# Altium integrated library Xilinx XC4000 E.IntLib: 265 symbols (part 16 of 22)
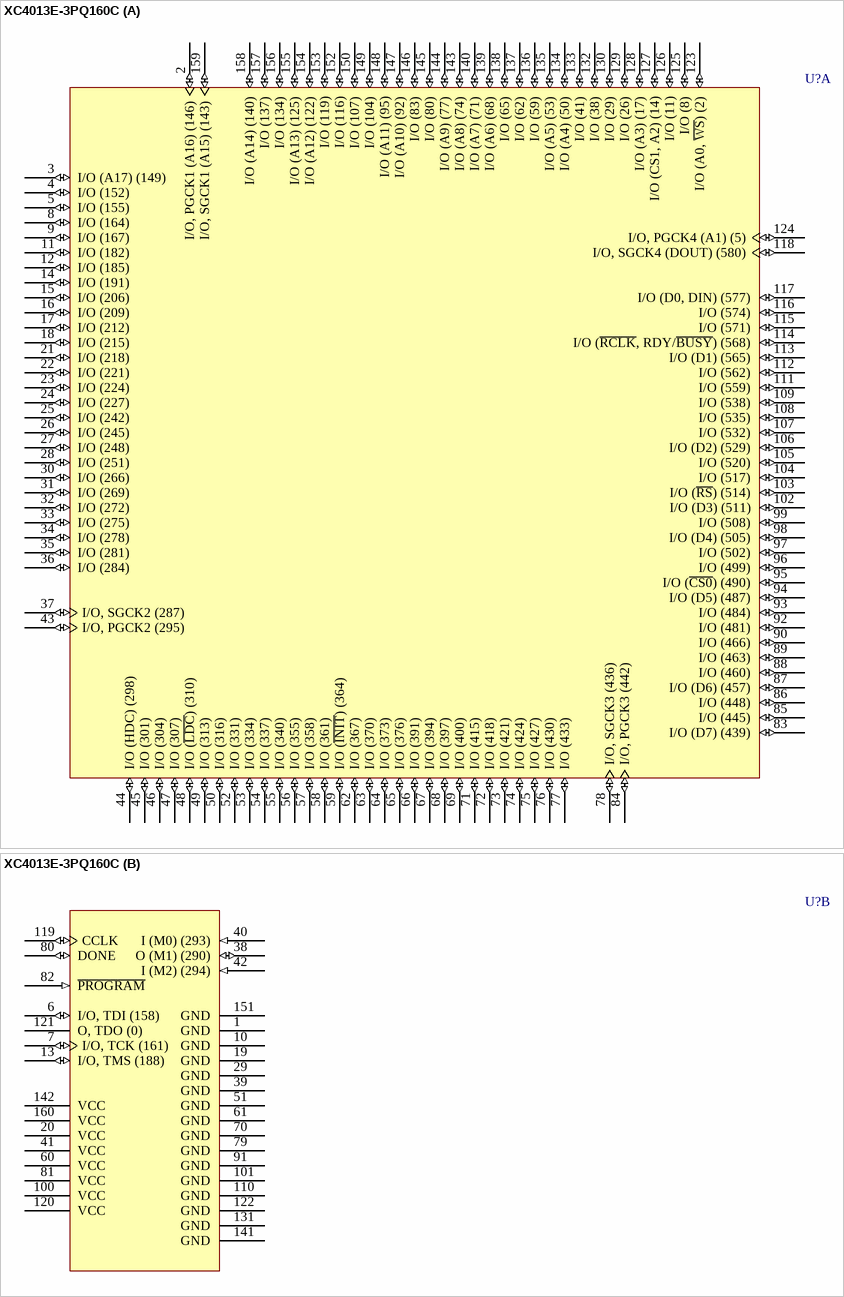
[diagram p287: symbol XC4013E-3PQ160C]

## XC4013E-3PQ160C
designator U?
XC4000E FPGA, 160-Pin PQFP, Commercial Grade; PackageDocument: ver1.1, Oct-2002; Published: 28-Feb-2003; DatasheetDocument: (v1.6) May-99; PackageReference: PQ160; Publisher: Altium Limited; Code_JEDEC: MS-022-DD1
footprint PQ160 (160-Pin Plastic Quad Flat Pack (PQ160))
part A pins: 2 I/O, PGCK1 (A16) (146) (io), 3 I/O (A17) (149) (io), 4 I/O (152) (io), 5 I/O (155) (io), 8 I/O (164) (io), 9 I/O (167) (io), 11 I/O (182) (io), 12 I/O (185) (io), 14 I/O (191) (io), 15 I/O (206) (io), 16 I/O (209) (io), 17 I/O (212) (io), 18 I/O (215) (io), 21 I/O (218) (io), 22 I/O (221) (io), 23 I/O (224) (io), 24 I/O (227) (io), 25 I/O (242) (io), 26 I/O (245) (io), 27 I/O (248) (io), 28 I/O (251) (io), 30 I/O (266) (io), 31 I/O (269) (io), 32 I/O (272) (io), 33 I/O (275) (io), 34 I/O (278) (io), 35 I/O (281) (io), 36 I/O (284) (io), 37 I/O, SGCK2 (287) (io), 43 I/O, PGCK2 (295) (io), 44 I/O (HDC) (298) (io), 45 I/O (301) (io), 46 I/O (304) (io), 47 I/O (307) (io), 48 I/O (~{LDC}) (310) (io), 49 I/O (313) (io), 50 I/O (316) (io), 52 I/O (331) (io), 53 I/O (334) (io), 54 I/O (337) (io), 55 I/O (340) (io), 56 I/O (355) (io), 57 I/O (358) (io), 58 I/O (361) (io), 59 I/O (~{INIT}) (364) (io), 62 I/O (367) (io), 63 I/O (370) (io), 64 I/O (373) (io), 65 I/O (376) (io), 66 I/O (391) (io), 67 I/O (394) (io), 68 I/O (397) (io), 69 I/O (400) (io), 71 I/O (415) (io), 72 I/O (418) (io), 73 I/O (421) (io), 74 I/O (424) (io), 75 I/O (427) (io), 76 I/O (430) (io), 77 I/O (433) (io), 78 I/O, SGCK3 (436) (io), 83 I/O (D7) (439) (io), 84 I/O, PGCK3 (442) (io), 85 I/O (445) (io), 86 I/O (448) (io), 87 I/O (D6) (457) (io), 88 I/O (460) (io), 89 I/O (463) (io), 90 I/O (466) (io), 92 I/O (481) (io), 93 I/O (484) (io), 94 I/O (D5) (487) (io), 95 I/O (~{CS0}) (490) (io), 96 I/O (499) (io), 97 I/O (502) (io), 98 I/O (D4) (505) (io), 99 I/O (508) (io), 102 I/O (D3) (511) (io), 103 I/O (~{RS}) (514) (io), 104 I/O (517) (io), 105 I/O (520) (io), 106 I/O (D2) (529) (io), 107 I/O (532) (io), 108 I/O (535) (io), 109 I/O (538) (io), 111 I/O (559) (io), 112 I/O (562) (io), 113 I/O (D1) (565) (io), 114 I/O (~{RCLK}, RDY/~{BUSY}) (568) (io), 115 I/O (571) (io), 116 I/O (574) (io), 117 I/O (D0, DIN) (577) (io), 118 I/O, SGCK4 (DOUT) (580) (io), 123 I/O (A0, ~{WS}) (2) (io), 124 I/O, PGCK4 (A1) (5) (io), 125 I/O (8) (io), 126 I/O (11) (io), 127 I/O (CS1, A2) (14) (io), 128 I/O (A3) (17) (io), 129 I/O (26) (io), 130 I/O (29) (io), 132 I/O (38) (io), 133 I/O (41) (io), 134 I/O (A4) (50) (io), 135 I/O (A5) (53) (io), 136 I/O (59) (io), 137 I/O (62) (io), 138 I/O (65) (io), 139 I/O (A6) (68) (io), 140 I/O (A7) (71) (io), 143 I/O (A8) (74) (io), 144 I/O (A9) (77) (io), 145 I/O (80) (io), 146 I/O (83) (io), 147 I/O (A10) (92) (io), 148 I/O (A11) (95) (io), 149 I/O (104) (io), 150 I/O (107) (io), 152 I/O (116) (io), 153 I/O (119) (io), 154 I/O (A12) (122) (io), 155 I/O (A13) (125) (io), 156 I/O (134) (io), 157 I/O (137) (io), 158 I/O (A14) (140) (io), 159 I/O, SGCK1 (A15) (143) (io)
part B pins: 1 GND (power), 6 I/O, TDI (158) (io), 7 I/O, TCK (161) (io), 10 GND (power), 13 I/O, TMS (188) (io), 19 GND (power), 20 VCC (power), 29 GND (power), 38 O (M1) (290) (io), 39 GND (power), 40 I (M0) (293) (in), 41 VCC (power), 42 I (M2) (294) (in), 51 GND (power), 60 VCC (power), 61 GND (power), 70 GND (power), 79 GND (power), 80 DONE (io), 81 VCC (power), 82 ~{PROGRAM} (in), 91 GND (power), 100 VCC (power), 101 GND (power), 110 GND (power), 119 CCLK (io), 120 VCC (power), 121 O, TDO (0) (hiz), 122 GND (power), 131 GND (power), 141 GND (power), 142 VCC (power), 151 GND (power), 160 VCC (power)

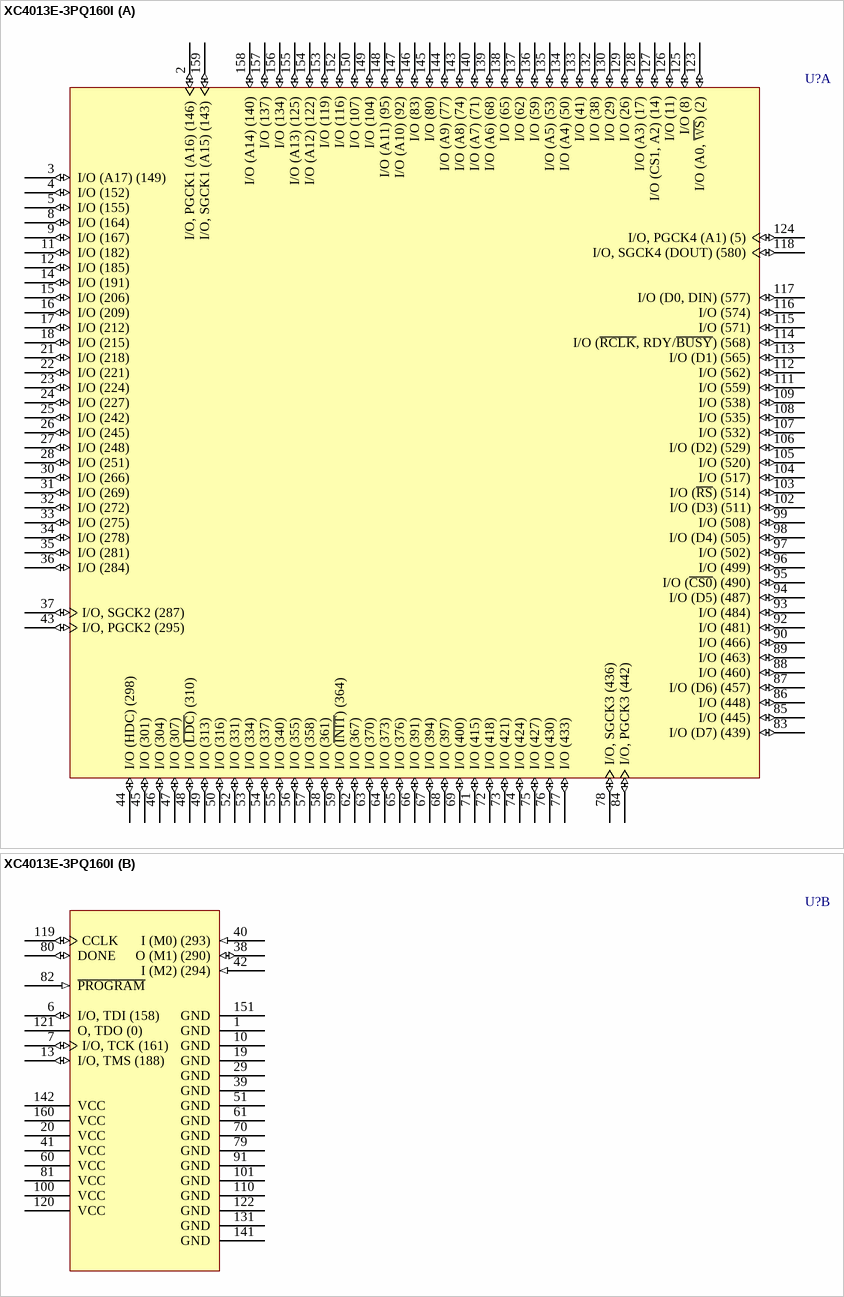
[diagram p190: symbol XC4013E-3PQ160I]

## XC4013E-3PQ160I
designator U?
XC4000E FPGA, 160-Pin PQFP, Industrial Grade; PackageDocument: ver1.1, Oct-2002; Published: 28-Feb-2003; DatasheetDocument: (v1.6) May-99; PackageReference: PQ160; Publisher: Altium Limited; Code_JEDEC: MS-022-DD1
footprint PQ160 (160-Pin Plastic Quad Flat Pack (PQ160))
part A pins: 2 I/O, PGCK1 (A16) (146) (io), 3 I/O (A17) (149) (io), 4 I/O (152) (io), 5 I/O (155) (io), 8 I/O (164) (io), 9 I/O (167) (io), 11 I/O (182) (io), 12 I/O (185) (io), 14 I/O (191) (io), 15 I/O (206) (io), 16 I/O (209) (io), 17 I/O (212) (io), 18 I/O (215) (io), 21 I/O (218) (io), 22 I/O (221) (io), 23 I/O (224) (io), 24 I/O (227) (io), 25 I/O (242) (io), 26 I/O (245) (io), 27 I/O (248) (io), 28 I/O (251) (io), 30 I/O (266) (io), 31 I/O (269) (io), 32 I/O (272) (io), 33 I/O (275) (io), 34 I/O (278) (io), 35 I/O (281) (io), 36 I/O (284) (io), 37 I/O, SGCK2 (287) (io), 43 I/O, PGCK2 (295) (io), 44 I/O (HDC) (298) (io), 45 I/O (301) (io), 46 I/O (304) (io), 47 I/O (307) (io), 48 I/O (~{LDC}) (310) (io), 49 I/O (313) (io), 50 I/O (316) (io), 52 I/O (331) (io), 53 I/O (334) (io), 54 I/O (337) (io), 55 I/O (340) (io), 56 I/O (355) (io), 57 I/O (358) (io), 58 I/O (361) (io), 59 I/O (~{INIT}) (364) (io), 62 I/O (367) (io), 63 I/O (370) (io), 64 I/O (373) (io), 65 I/O (376) (io), 66 I/O (391) (io), 67 I/O (394) (io), 68 I/O (397) (io), 69 I/O (400) (io), 71 I/O (415) (io), 72 I/O (418) (io), 73 I/O (421) (io), 74 I/O (424) (io), 75 I/O (427) (io), 76 I/O (430) (io), 77 I/O (433) (io), 78 I/O, SGCK3 (436) (io), 83 I/O (D7) (439) (io), 84 I/O, PGCK3 (442) (io), 85 I/O (445) (io), 86 I/O (448) (io), 87 I/O (D6) (457) (io), 88 I/O (460) (io), 89 I/O (463) (io), 90 I/O (466) (io), 92 I/O (481) (io), 93 I/O (484) (io), 94 I/O (D5) (487) (io), 95 I/O (~{CS0}) (490) (io), 96 I/O (499) (io), 97 I/O (502) (io), 98 I/O (D4) (505) (io), 99 I/O (508) (io), 102 I/O (D3) (511) (io), 103 I/O (~{RS}) (514) (io), 104 I/O (517) (io), 105 I/O (520) (io), 106 I/O (D2) (529) (io), 107 I/O (532) (io), 108 I/O (535) (io), 109 I/O (538) (io), 111 I/O (559) (io), 112 I/O (562) (io), 113 I/O (D1) (565) (io), 114 I/O (~{RCLK}, RDY/~{BUSY}) (568) (io), 115 I/O (571) (io), 116 I/O (574) (io), 117 I/O (D0, DIN) (577) (io), 118 I/O, SGCK4 (DOUT) (580) (io), 123 I/O (A0, ~{WS}) (2) (io), 124 I/O, PGCK4 (A1) (5) (io), 125 I/O (8) (io), 126 I/O (11) (io), 127 I/O (CS1, A2) (14) (io), 128 I/O (A3) (17) (io), 129 I/O (26) (io), 130 I/O (29) (io), 132 I/O (38) (io), 133 I/O (41) (io), 134 I/O (A4) (50) (io), 135 I/O (A5) (53) (io), 136 I/O (59) (io), 137 I/O (62) (io), 138 I/O (65) (io), 139 I/O (A6) (68) (io), 140 I/O (A7) (71) (io), 143 I/O (A8) (74) (io), 144 I/O (A9) (77) (io), 145 I/O (80) (io), 146 I/O (83) (io), 147 I/O (A10) (92) (io), 148 I/O (A11) (95) (io), 149 I/O (104) (io), 150 I/O (107) (io), 152 I/O (116) (io), 153 I/O (119) (io), 154 I/O (A12) (122) (io), 155 I/O (A13) (125) (io), 156 I/O (134) (io), 157 I/O (137) (io), 158 I/O (A14) (140) (io), 159 I/O, SGCK1 (A15) (143) (io)
part B pins: 1 GND (power), 6 I/O, TDI (158) (io), 7 I/O, TCK (161) (io), 10 GND (power), 13 I/O, TMS (188) (io), 19 GND (power), 20 VCC (power), 29 GND (power), 38 O (M1) (290) (io), 39 GND (power), 40 I (M0) (293) (in), 41 VCC (power), 42 I (M2) (294) (in), 51 GND (power), 60 VCC (power), 61 GND (power), 70 GND (power), 79 GND (power), 80 DONE (io), 81 VCC (power), 82 ~{PROGRAM} (in), 91 GND (power), 100 VCC (power), 101 GND (power), 110 GND (power), 119 CCLK (io), 120 VCC (power), 121 O, TDO (0) (hiz), 122 GND (power), 131 GND (power), 141 GND (power), 142 VCC (power), 151 GND (power), 160 VCC (power)

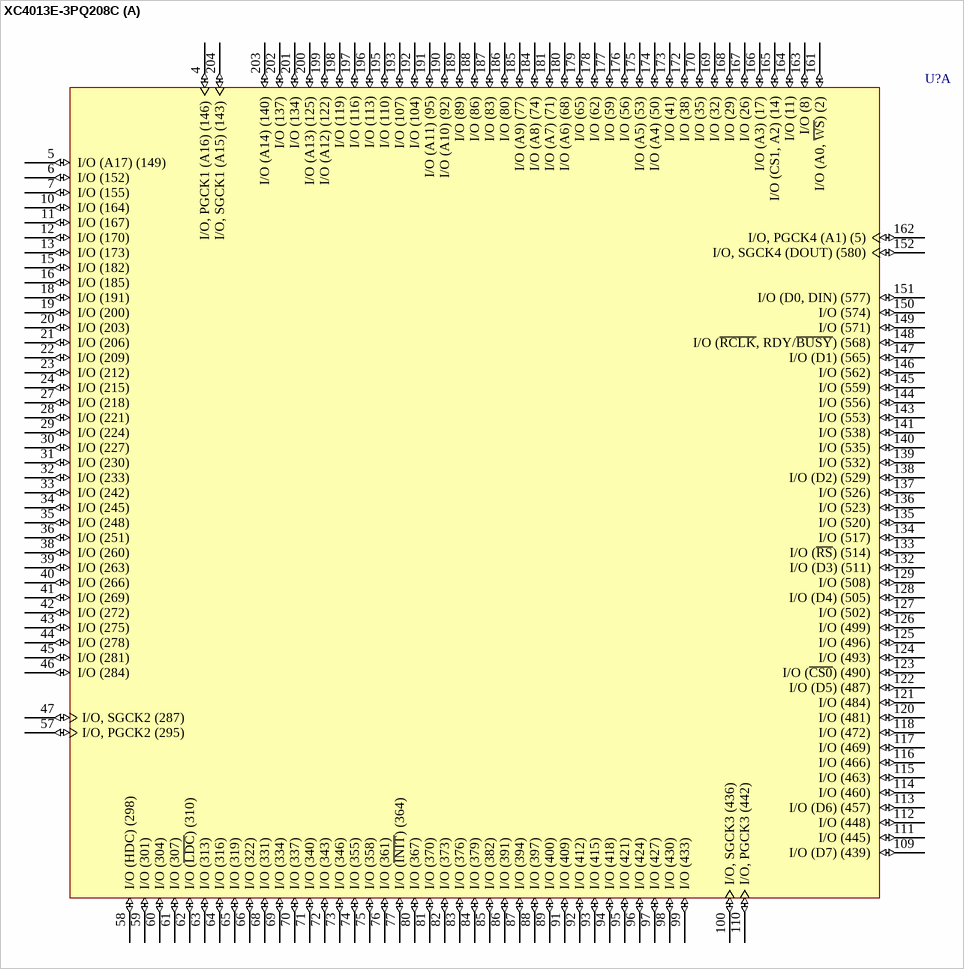
[diagram p191: symbol XC4013E-3PQ208C]

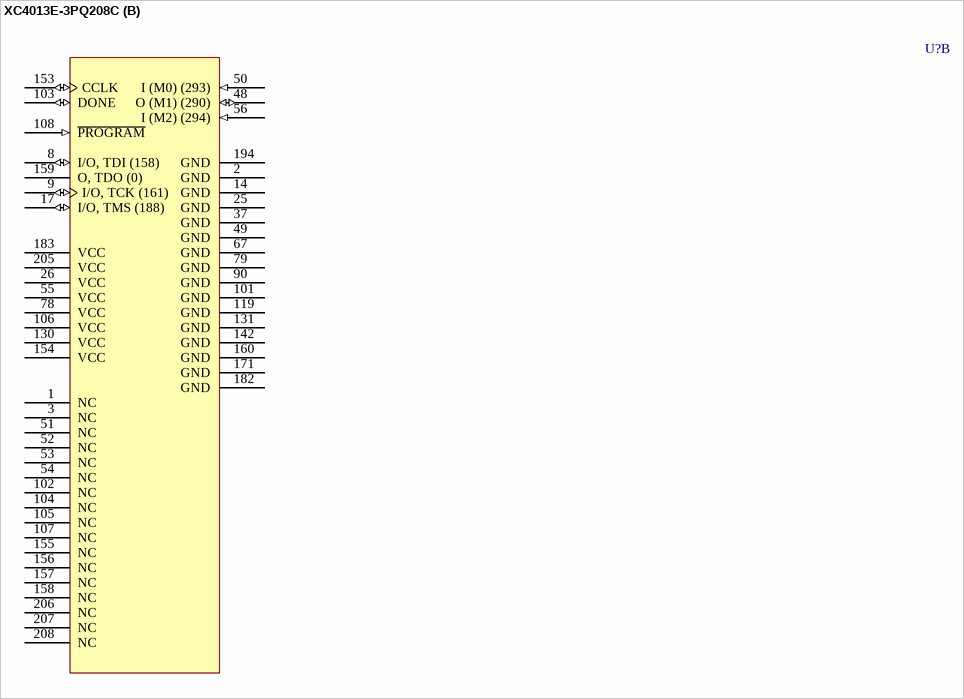
[diagram p192: symbol XC4013E-3PQ208C]

## XC4013E-3PQ208C
designator U?
XC4000E FPGA, 208-Pin PQFP, Commercial Grade; PackageDocument: ver1.1, Oct-2002; Published: 28-Feb-2003; DatasheetDocument: (v1.6) May-99; PackageReference: PQ208; Publisher: Altium Limited; Code_JEDEC: MS-029-FA-1
footprint PQ208 (208-Pin Plastic Quad Flat Pack (PQ208))
part A pins: 4 I/O, PGCK1 (A16) (146) (io), 5 I/O (A17) (149) (io), 6 I/O (152) (io), 7 I/O (155) (io), 10 I/O (164) (io), 11 I/O (167) (io), 12 I/O (170) (io), 13 I/O (173) (io), 15 I/O (182) (io), 16 I/O (185) (io), 18 I/O (191) (io), 19 I/O (200) (io), 20 I/O (203) (io), 21 I/O (206) (io), 22 I/O (209) (io), 23 I/O (212) (io), 24 I/O (215) (io), 27 I/O (218) (io), 28 I/O (221) (io), 29 I/O (224) (io), 30 I/O (227) (io), 31 I/O (230) (io), 32 I/O (233) (io), 33 I/O (242) (io), 34 I/O (245) (io), 35 I/O (248) (io), 36 I/O (251) (io), 38 I/O (260) (io), 39 I/O (263) (io), 40 I/O (266) (io), 41 I/O (269) (io), 42 I/O (272) (io), 43 I/O (275) (io), 44 I/O (278) (io), 45 I/O (281) (io), 46 I/O (284) (io), 47 I/O, SGCK2 (287) (io), 57 I/O, PGCK2 (295) (io), 58 I/O (HDC) (298) (io), 59 I/O (301) (io), 60 I/O (304) (io), 61 I/O (307) (io), 62 I/O (~{LDC}) (310) (io), 63 I/O (313) (io), 64 I/O (316) (io), 65 I/O (319) (io), 66 I/O (322) (io), 68 I/O (331) (io), 69 I/O (334) (io), 70 I/O (337) (io), 71 I/O (340) (io), 72 I/O (343) (io), 73 I/O (346) (io), 74 I/O (355) (io), 75 I/O (358) (io), 76 I/O (361) (io), 77 I/O (~{INIT}) (364) (io), 80 I/O (367) (io), 81 I/O (370) (io), 82 I/O (373) (io), 83 I/O (376) (io), 84 I/O (379) (io), 85 I/O (382) (io), 86 I/O (391) (io), 87 I/O (394) (io), 88 I/O (397) (io), 89 I/O (400) (io), 91 I/O (409) (io), 92 I/O (412) (io), 93 I/O (415) (io), 94 I/O (418) (io), 95 I/O (421) (io), 96 I/O (424) (io), 97 I/O (427) (io), 98 I/O (430) (io), 99 I/O (433) (io), 100 I/O, SGCK3 (436) (io), 109 I/O (D7) (439) (io), 110 I/O, PGCK3 (442) (io), 111 I/O (445) (io), 112 I/O (448) (io), 113 I/O (D6) (457) (io), 114 I/O (460) (io), 115 I/O (463) (io), 116 I/O (466) (io), 117 I/O (469) (io), 118 I/O (472) (io), 120 I/O (481) (io), 121 I/O (484) (io), 122 I/O (D5) (487) (io), 123 I/O (~{CS0}) (490) (io), 124 I/O (493) (io), 125 I/O (496) (io), 126 I/O (499) (io), 127 I/O (502) (io), 128 I/O (D4) (505) (io), 129 I/O (508) (io), 132 I/O (D3) (511) (io), 133 I/O (~{RS}) (514) (io), 134 I/O (517) (io), 135 I/O (520) (io), 136 I/O (523) (io), 137 I/O (526) (io), 138 I/O (D2) (529) (io), 139 I/O (532) (io), 140 I/O (535) (io), 141 I/O (538) (io), 143 I/O (553) (io), 144 I/O (556) (io), 145 I/O (559) (io), 146 I/O (562) (io), 147 I/O (D1) (565) (io), 148 I/O (~{RCLK}, RDY/~{BUSY}) (568) (io), 149 I/O (571) (io), 150 I/O (574) (io), 151 I/O (D0, DIN) (577) (io), 152 I/O, SGCK4 (DOUT) (580) (io), 161 I/O (A0, ~{WS}) (2) (io), 162 I/O, PGCK4 (A1) (5) (io), 163 I/O (8) (io), 164 I/O (11) (io), 165 I/O (CS1, A2) (14) (io), 166 I/O (A3) (17) (io), 167 I/O (26) (io), 168 I/O (29) (io), 169 I/O (32) (io), 170 I/O (35) (io), 172 I/O (38) (io), 173 I/O (41) (io), 174 I/O (A4) (50) (io), 175 I/O (A5) (53) (io), 176 I/O (56) (io), 177 I/O (59) (io), 178 I/O (62) (io), 179 I/O (65) (io), 180 I/O (A6) (68) (io), 181 I/O (A7) (71) (io), 184 I/O (A8) (74) (io), 185 I/O (A9) (77) (io), 186 I/O (80) (io), 187 I/O (83) (io), 188 I/O (86) (io), 189 I/O (89) (io), 190 I/O (A10) (92) (io), 191 I/O (A11) (95) (io), 192 I/O (104) (io), 193 I/O (107) (io), 195 I/O (110) (io), 196 I/O (113) (io), 197 I/O (116) (io), 198 I/O (119) (io), 199 I/O (A12) (122) (io), 200 I/O (A13) (125) (io), 201 I/O (134) (io), 202 I/O (137) (io), 203 I/O (A14) (140) (io), 204 I/O, SGCK1 (A15) (143) (io)
part B pins: 1 NC, 2 GND (power), 3 NC, 8 I/O, TDI (158) (io), 9 I/O, TCK (161) (io), 14 GND (power), 17 I/O, TMS (188) (io), 25 GND (power), 26 VCC (power), 37 GND (power), 48 O (M1) (290) (io), 49 GND (power), 50 I (M0) (293) (in), 51 NC, 52 NC, 53 NC, 54 NC, 55 VCC (power), 56 I (M2) (294) (in), 67 GND (power), 78 VCC (power), 79 GND (power), 90 GND (power), 101 GND (power), 102 NC, 103 DONE (io), 104 NC, 105 NC, 106 VCC (power), 107 NC, 108 ~{PROGRAM} (in), 119 GND (power), 130 VCC (power), 131 GND (power), 142 GND (power), 153 CCLK (io), 154 VCC (power), 155 NC, 156 NC, 157 NC, 158 NC, 159 O, TDO (0) (hiz), 160 GND (power), 171 GND (power), 182 GND (power), 183 VCC (power), 194 GND (power), 205 VCC (power), 206 NC, 207 NC, 208 NC

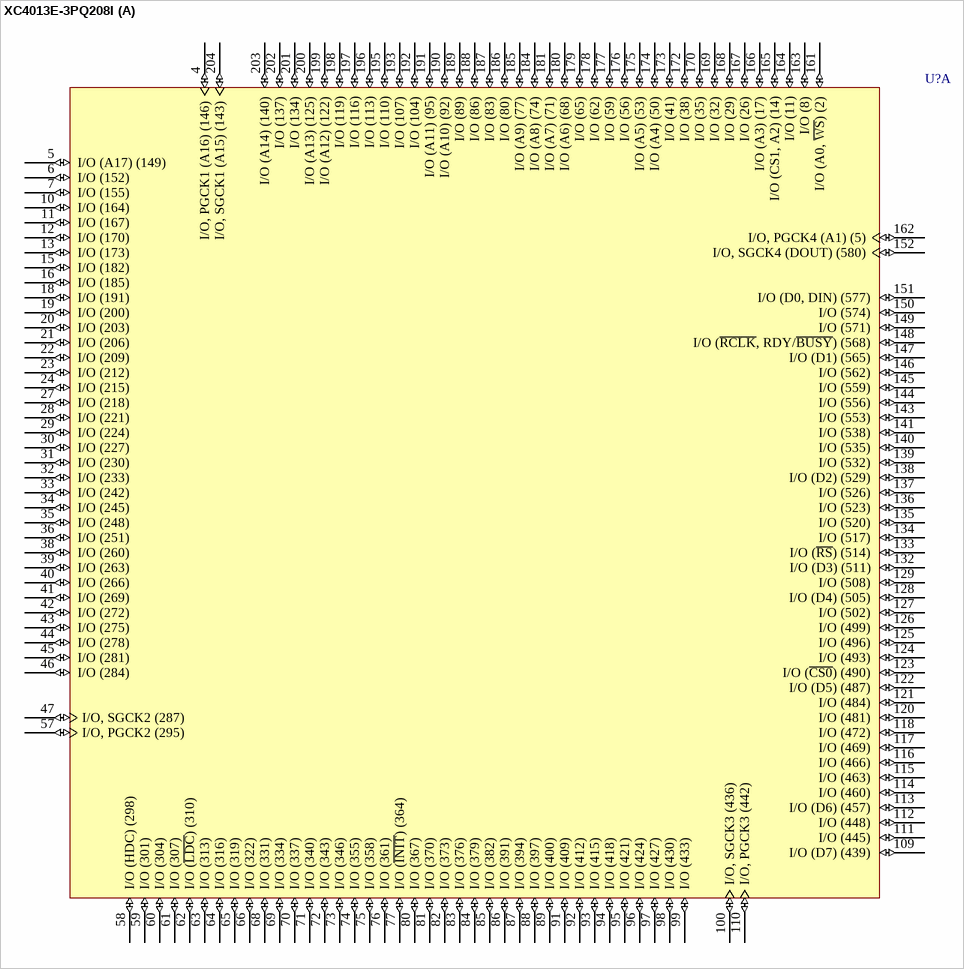
[diagram p193: symbol XC4013E-3PQ208I]

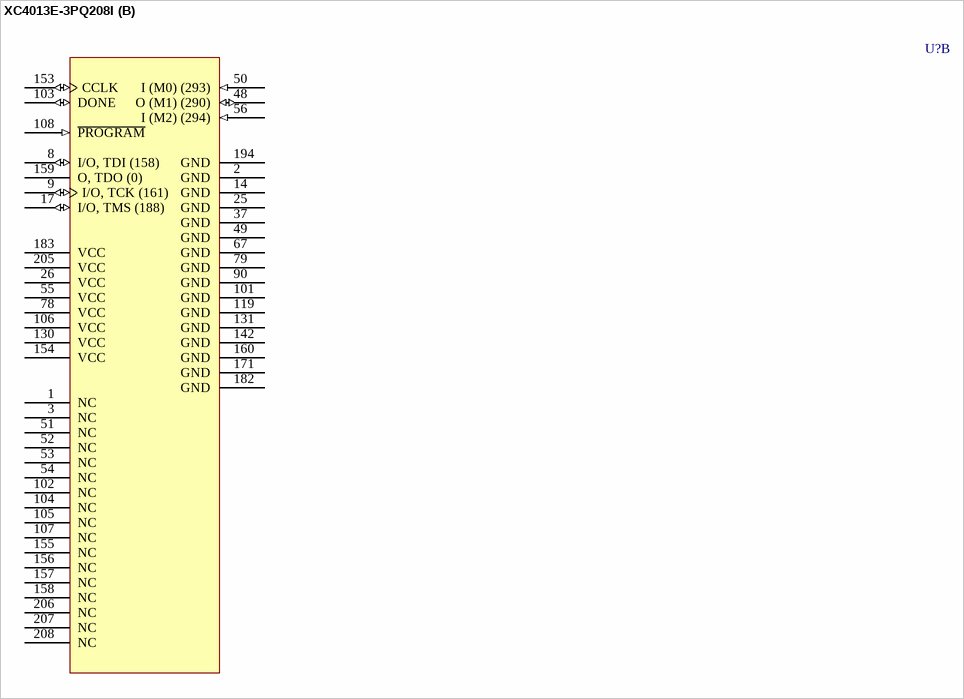
[diagram p194: symbol XC4013E-3PQ208I]

## XC4013E-3PQ208I
designator U?
XC4000E FPGA, 208-Pin PQFP, Industrial Grade; PackageDocument: ver1.1, Oct-2002; Published: 28-Feb-2003; DatasheetDocument: (v1.6) May-99; PackageReference: PQ208; Publisher: Altium Limited; Code_JEDEC: MS-029-FA-1
footprint PQ208 (208-Pin Plastic Quad Flat Pack (PQ208))
part A pins: 4 I/O, PGCK1 (A16) (146) (io), 5 I/O (A17) (149) (io), 6 I/O (152) (io), 7 I/O (155) (io), 10 I/O (164) (io), 11 I/O (167) (io), 12 I/O (170) (io), 13 I/O (173) (io), 15 I/O (182) (io), 16 I/O (185) (io), 18 I/O (191) (io), 19 I/O (200) (io), 20 I/O (203) (io), 21 I/O (206) (io), 22 I/O (209) (io), 23 I/O (212) (io), 24 I/O (215) (io), 27 I/O (218) (io), 28 I/O (221) (io), 29 I/O (224) (io), 30 I/O (227) (io), 31 I/O (230) (io), 32 I/O (233) (io), 33 I/O (242) (io), 34 I/O (245) (io), 35 I/O (248) (io), 36 I/O (251) (io), 38 I/O (260) (io), 39 I/O (263) (io), 40 I/O (266) (io), 41 I/O (269) (io), 42 I/O (272) (io), 43 I/O (275) (io), 44 I/O (278) (io), 45 I/O (281) (io), 46 I/O (284) (io), 47 I/O, SGCK2 (287) (io), 57 I/O, PGCK2 (295) (io), 58 I/O (HDC) (298) (io), 59 I/O (301) (io), 60 I/O (304) (io), 61 I/O (307) (io), 62 I/O (~{LDC}) (310) (io), 63 I/O (313) (io), 64 I/O (316) (io), 65 I/O (319) (io), 66 I/O (322) (io), 68 I/O (331) (io), 69 I/O (334) (io), 70 I/O (337) (io), 71 I/O (340) (io), 72 I/O (343) (io), 73 I/O (346) (io), 74 I/O (355) (io), 75 I/O (358) (io), 76 I/O (361) (io), 77 I/O (~{INIT}) (364) (io), 80 I/O (367) (io), 81 I/O (370) (io), 82 I/O (373) (io), 83 I/O (376) (io), 84 I/O (379) (io), 85 I/O (382) (io), 86 I/O (391) (io), 87 I/O (394) (io), 88 I/O (397) (io), 89 I/O (400) (io), 91 I/O (409) (io), 92 I/O (412) (io), 93 I/O (415) (io), 94 I/O (418) (io), 95 I/O (421) (io), 96 I/O (424) (io), 97 I/O (427) (io), 98 I/O (430) (io), 99 I/O (433) (io), 100 I/O, SGCK3 (436) (io), 109 I/O (D7) (439) (io), 110 I/O, PGCK3 (442) (io), 111 I/O (445) (io), 112 I/O (448) (io), 113 I/O (D6) (457) (io), 114 I/O (460) (io), 115 I/O (463) (io), 116 I/O (466) (io), 117 I/O (469) (io), 118 I/O (472) (io), 120 I/O (481) (io), 121 I/O (484) (io), 122 I/O (D5) (487) (io), 123 I/O (~{CS0}) (490) (io), 124 I/O (493) (io), 125 I/O (496) (io), 126 I/O (499) (io), 127 I/O (502) (io), 128 I/O (D4) (505) (io), 129 I/O (508) (io), 132 I/O (D3) (511) (io), 133 I/O (~{RS}) (514) (io), 134 I/O (517) (io), 135 I/O (520) (io), 136 I/O (523) (io), 137 I/O (526) (io), 138 I/O (D2) (529) (io), 139 I/O (532) (io), 140 I/O (535) (io), 141 I/O (538) (io), 143 I/O (553) (io), 144 I/O (556) (io), 145 I/O (559) (io), 146 I/O (562) (io), 147 I/O (D1) (565) (io), 148 I/O (~{RCLK}, RDY/~{BUSY}) (568) (io), 149 I/O (571) (io), 150 I/O (574) (io), 151 I/O (D0, DIN) (577) (io), 152 I/O, SGCK4 (DOUT) (580) (io), 161 I/O (A0, ~{WS}) (2) (io), 162 I/O, PGCK4 (A1) (5) (io), 163 I/O (8) (io), 164 I/O (11) (io), 165 I/O (CS1, A2) (14) (io), 166 I/O (A3) (17) (io), 167 I/O (26) (io), 168 I/O (29) (io), 169 I/O (32) (io), 170 I/O (35) (io), 172 I/O (38) (io), 173 I/O (41) (io), 174 I/O (A4) (50) (io), 175 I/O (A5) (53) (io), 176 I/O (56) (io), 177 I/O (59) (io), 178 I/O (62) (io), 179 I/O (65) (io), 180 I/O (A6) (68) (io), 181 I/O (A7) (71) (io), 184 I/O (A8) (74) (io), 185 I/O (A9) (77) (io), 186 I/O (80) (io), 187 I/O (83) (io), 188 I/O (86) (io), 189 I/O (89) (io), 190 I/O (A10) (92) (io), 191 I/O (A11) (95) (io), 192 I/O (104) (io), 193 I/O (107) (io), 195 I/O (110) (io), 196 I/O (113) (io), 197 I/O (116) (io), 198 I/O (119) (io), 199 I/O (A12) (122) (io), 200 I/O (A13) (125) (io), 201 I/O (134) (io), 202 I/O (137) (io), 203 I/O (A14) (140) (io), 204 I/O, SGCK1 (A15) (143) (io)
part B pins: 1 NC, 2 GND (power), 3 NC, 8 I/O, TDI (158) (io), 9 I/O, TCK (161) (io), 14 GND (power), 17 I/O, TMS (188) (io), 25 GND (power), 26 VCC (power), 37 GND (power), 48 O (M1) (290) (io), 49 GND (power), 50 I (M0) (293) (in), 51 NC, 52 NC, 53 NC, 54 NC, 55 VCC (power), 56 I (M2) (294) (in), 67 GND (power), 78 VCC (power), 79 GND (power), 90 GND (power), 101 GND (power), 102 NC, 103 DONE (io), 104 NC, 105 NC, 106 VCC (power), 107 NC, 108 ~{PROGRAM} (in), 119 GND (power), 130 VCC (power), 131 GND (power), 142 GND (power), 153 CCLK (io), 154 VCC (power), 155 NC, 156 NC, 157 NC, 158 NC, 159 O, TDO (0) (hiz), 160 GND (power), 171 GND (power), 182 GND (power), 183 VCC (power), 194 GND (power), 205 VCC (power), 206 NC, 207 NC, 208 NC

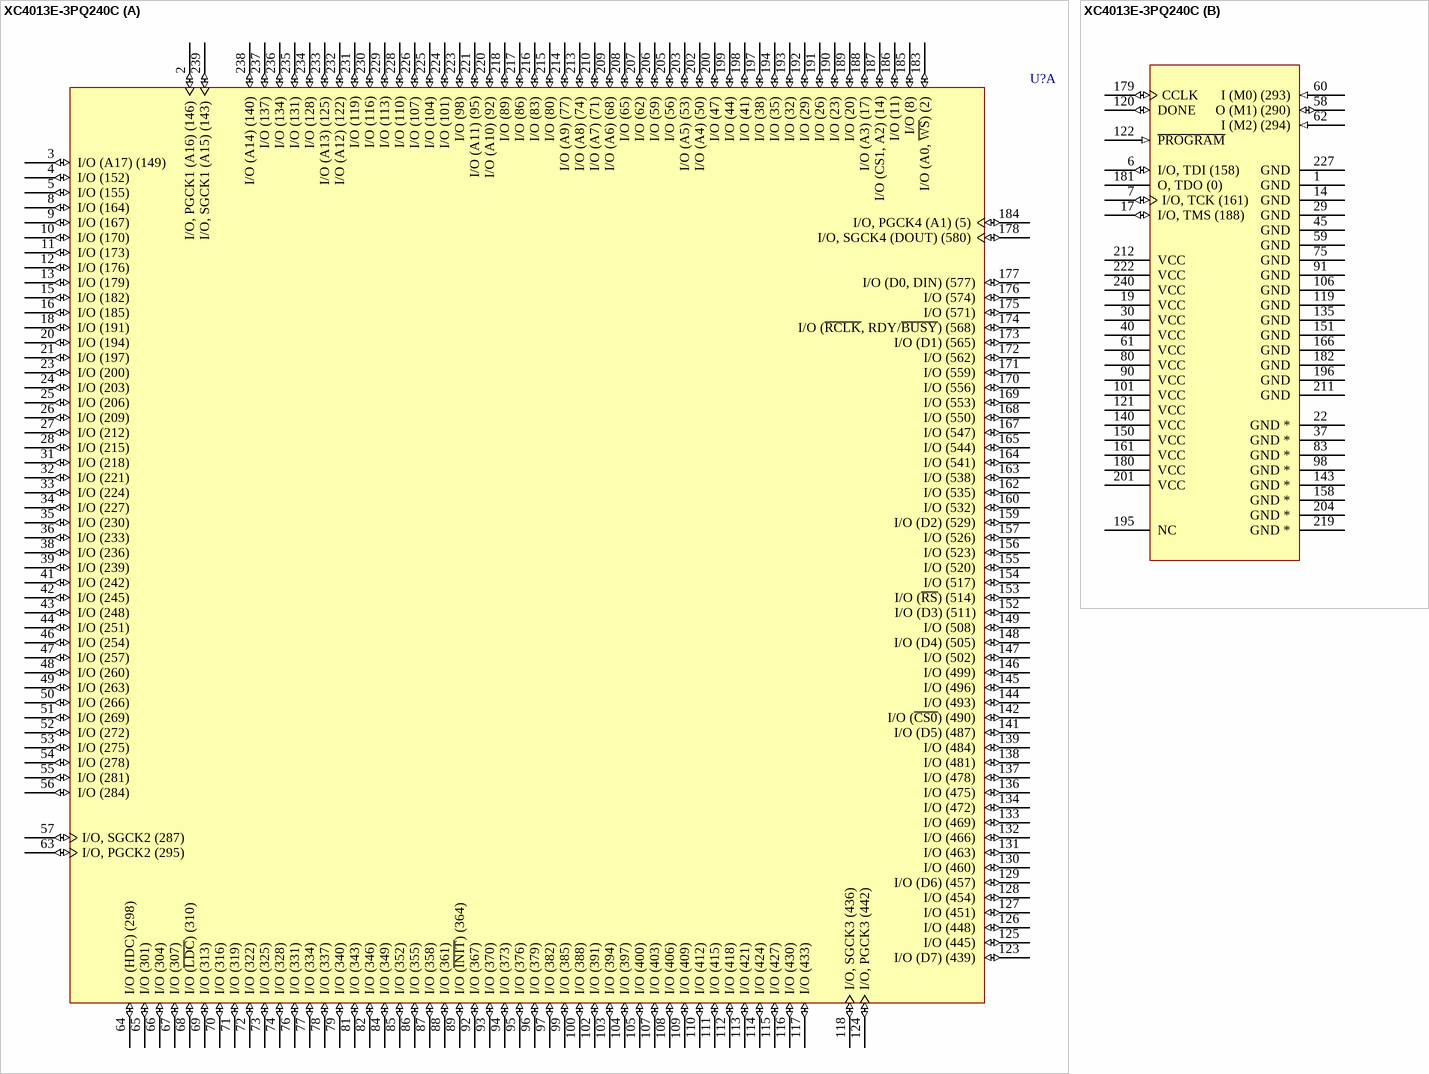
[diagram p195: symbol XC4013E-3PQ240C]

## XC4013E-3PQ240C
designator U?
XC4000E FPGA, 240-Pin PQFP, Commercial Grade; PackageDocument: ver1.1, Oct-2002; Published: 28-Feb-2003; DatasheetDocument: (v1.6) May-99; PackageReference: PQ240; Publisher: Altium Limited; Code_JEDEC: MO-143-GA
footprint PQ240 (240-Pin Plastic Quad Flat Pack (PQ240))
part A pins: 2 I/O, PGCK1 (A16) (146) (io), 3 I/O (A17) (149) (io), 4 I/O (152) (io), 5 I/O (155) (io), 8 I/O (164) (io), 9 I/O (167) (io), 10 I/O (170) (io), 11 I/O (173) (io), 12 I/O (176) (io), 13 I/O (179) (io), 15 I/O (182) (io), 16 I/O (185) (io), 18 I/O (191) (io), 20 I/O (194) (io), 21 I/O (197) (io), 23 I/O (200) (io), 24 I/O (203) (io), 25 I/O (206) (io), 26 I/O (209) (io), 27 I/O (212) (io), 28 I/O (215) (io), 31 I/O (218) (io), 32 I/O (221) (io), 33 I/O (224) (io), 34 I/O (227) (io), 35 I/O (230) (io), 36 I/O (233) (io), 38 I/O (236) (io), 39 I/O (239) (io), 41 I/O (242) (io), 42 I/O (245) (io), 43 I/O (248) (io), 44 I/O (251) (io), 46 I/O (254) (io), 47 I/O (257) (io), 48 I/O (260) (io), 49 I/O (263) (io), 50 I/O (266) (io), 51 I/O (269) (io), 52 I/O (272) (io), 53 I/O (275) (io), 54 I/O (278) (io), 55 I/O (281) (io), 56 I/O (284) (io), 57 I/O, SGCK2 (287) (io), 63 I/O, PGCK2 (295) (io), 64 I/O (HDC) (298) (io), 65 I/O (301) (io), 66 I/O (304) (io), 67 I/O (307) (io), 68 I/O (~{LDC}) (310) (io), 69 I/O (313) (io), 70 I/O (316) (io), 71 I/O (319) (io), 72 I/O (322) (io), 73 I/O (325) (io), 74 I/O (328) (io), 76 I/O (331) (io), 77 I/O (334) (io), 78 I/O (337) (io), 79 I/O (340) (io), 81 I/O (343) (io), 82 I/O (346) (io), 84 I/O (349) (io), 85 I/O (352) (io), 86 I/O (355) (io), 87 I/O (358) (io), 88 I/O (361) (io), 89 I/O (~{INIT}) (364) (io), 92 I/O (367) (io), 93 I/O (370) (io), 94 I/O (373) (io), 95 I/O (376) (io), 96 I/O (379) (io), 97 I/O (382) (io), 99 I/O (385) (io), 100 I/O (388) (io), 102 I/O (391) (io), 103 I/O (394) (io), 104 I/O (397) (io), 105 I/O (400) (io), 107 I/O (403) (io), 108 I/O (406) (io), 109 I/O (409) (io), 110 I/O (412) (io), 111 I/O (415) (io), 112 I/O (418) (io), 113 I/O (421) (io), 114 I/O (424) (io), 115 I/O (427) (io), 116 I/O (430) (io), 117 I/O (433) (io), 118 I/O, SGCK3 (436) (io), 123 I/O (D7) (439) (io), 124 I/O, PGCK3 (442) (io), 125 I/O (445) (io), 126 I/O (448) (io), 127 I/O (451) (io), 128 I/O (454) (io), 129 I/O (D6) (457) (io), 130 I/O (460) (io), 131 I/O (463) (io), 132 I/O (466) (io), 133 I/O (469) (io), 134 I/O (472) (io), 136 I/O (475) (io), 137 I/O (478) (io), 138 I/O (481) (io), 139 I/O (484) (io), 141 I/O (D5) (487) (io), 142 I/O (~{CS0}) (490) (io), 144 I/O (493) (io), 145 I/O (496) (io), 146 I/O (499) (io), 147 I/O (502) (io), 148 I/O (D4) (505) (io), 149 I/O (508) (io), 152 I/O (D3) (511) (io), 153 I/O (~{RS}) (514) (io), 154 I/O (517) (io), 155 I/O (520) (io), 156 I/O (523) (io), 157 I/O (526) (io), 159 I/O (D2) (529) (io), 160 I/O (532) (io), 162 I/O (535) (io), 163 I/O (538) (io), 164 I/O (541) (io), 165 I/O (544) (io), 167 I/O (547) (io), 168 I/O (550) (io), 169 I/O (553) (io), 170 I/O (556) (io), 171 I/O (559) (io), 172 I/O (562) (io), 173 I/O (D1) (565) (io), 174 I/O (~{RCLK}, RDY/~{BUSY}) (568) (io), 175 I/O (571) (io), 176 I/O (574) (io), 177 I/O (D0, DIN) (577) (io), 178 I/O, SGCK4 (DOUT) (580) (io), 183 I/O (A0, ~{WS}) (2) (io), 184 I/O, PGCK4 (A1) (5) (io), 185 I/O (8) (io), 186 I/O (11) (io), 187 I/O (CS1, A2) (14) (io), 188 I/O (A3) (17) (io), 189 I/O (20) (io), 190 I/O (23) (io), 191 I/O (26) (io), 192 I/O (29) (io), 193 I/O (32) (io), 194 I/O (35) (io), 197 I/O (38) (io), 198 I/O (41) (io), 199 I/O (44) (io), 200 I/O (47) (io), 202 I/O (A4) (50) (io), 203 I/O (A5) (53) (io), 205 I/O (56) (io), 206 I/O (59) (io), 207 I/O (62) (io), 208 I/O (65) (io), 209 I/O (A6) (68) (io), 210 I/O (A7) (71) (io), 213 I/O (A8) (74) (io), 214 I/O (A9) (77) (io), 215 I/O (80) (io), 216 I/O (83) (io), 217 I/O (86) (io), 218 I/O (89) (io), 220 I/O (A10) (92) (io), 221 I/O (A11) (95) (io), 223 I/O (98) (io), 224 I/O (101) (io), 225 I/O (104) (io), 226 I/O (107) (io), 228 I/O (110) (io), 229 I/O (113) (io), 230 I/O (116) (io), 231 I/O (119) (io), 232 I/O (A12) (122) (io), 233 I/O (A13) (125) (io), 234 I/O (128) (io), 235 I/O (131) (io), 236 I/O (134) (io), 237 I/O (137) (io), 238 I/O (A14) (140) (io), 239 I/O, SGCK1 (A15) (143) (io)
part B pins: 1 GND (power), 6 I/O, TDI (158) (io), 7 I/O, TCK (161) (io), 14 GND (power), 17 I/O, TMS (188) (io), 19 VCC (power), 22 GND * (power), 29 GND (power), 30 VCC (power), 37 GND * (power), 40 VCC (power), 45 GND (power), 58 O (M1) (290) (io), 59 GND (power), 60 I (M0) (293) (in), 61 VCC (power), 62 I (M2) (294) (in), 75 GND (power), 80 VCC (power), 83 GND * (power), 90 VCC (power), 91 GND (power), 98 GND * (power), 101 VCC (power), 106 GND (power), 119 GND (power), 120 DONE (io), 121 VCC (power), 122 ~{PROGRAM} (in), 135 GND (power), 140 VCC (power), 143 GND * (power), 150 VCC (power), 151 GND (power), 158 GND * (power), 161 VCC (power), 166 GND (power), 179 CCLK (io), 180 VCC (power), 181 O, TDO (0) (hiz), 182 GND (power), 195 NC, 196 GND (power), 201 VCC (power), 204 GND * (power), 211 GND (power), 212 VCC (power), 219 GND * (power), 222 VCC (power), 227 GND (power), 240 VCC (power)

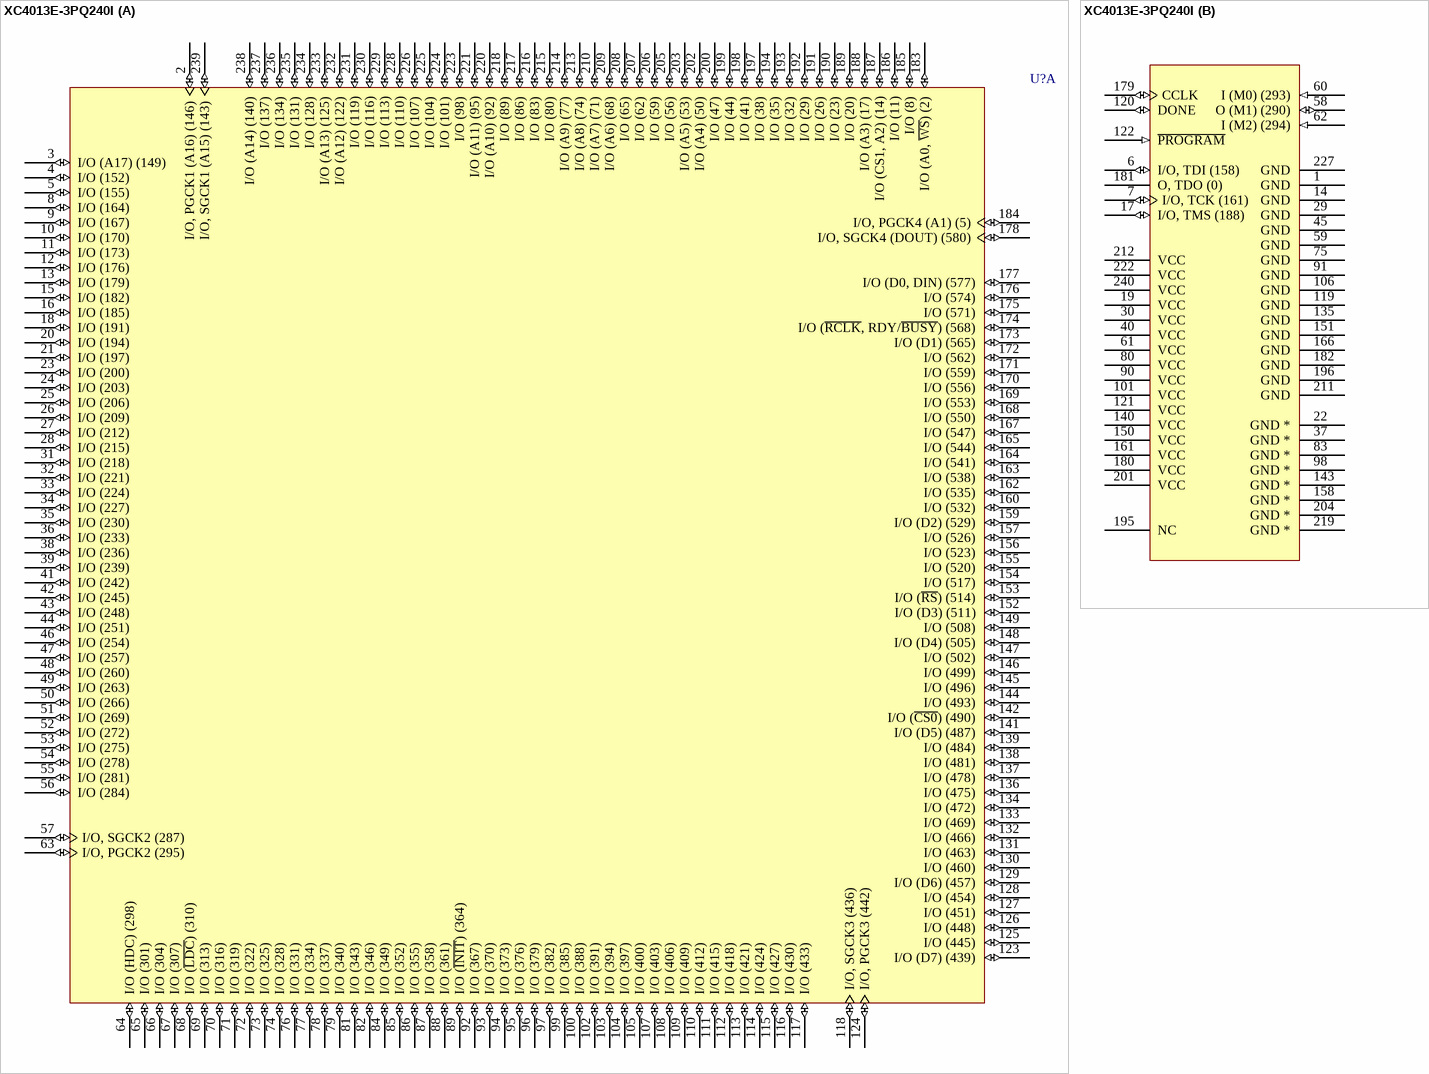
[diagram p196: symbol XC4013E-3PQ240I]

## XC4013E-3PQ240I
designator U?
XC4000E FPGA, 240-Pin PQFP, Industrial Grade; PackageDocument: ver1.1, Oct-2002; Published: 28-Feb-2003; DatasheetDocument: (v1.6) May-99; PackageReference: PQ240; Publisher: Altium Limited; Code_JEDEC: MO-143-GA
footprint PQ240 (240-Pin Plastic Quad Flat Pack (PQ240))
part A pins: 2 I/O, PGCK1 (A16) (146) (io), 3 I/O (A17) (149) (io), 4 I/O (152) (io), 5 I/O (155) (io), 8 I/O (164) (io), 9 I/O (167) (io), 10 I/O (170) (io), 11 I/O (173) (io), 12 I/O (176) (io), 13 I/O (179) (io), 15 I/O (182) (io), 16 I/O (185) (io), 18 I/O (191) (io), 20 I/O (194) (io), 21 I/O (197) (io), 23 I/O (200) (io), 24 I/O (203) (io), 25 I/O (206) (io), 26 I/O (209) (io), 27 I/O (212) (io), 28 I/O (215) (io), 31 I/O (218) (io), 32 I/O (221) (io), 33 I/O (224) (io), 34 I/O (227) (io), 35 I/O (230) (io), 36 I/O (233) (io), 38 I/O (236) (io), 39 I/O (239) (io), 41 I/O (242) (io), 42 I/O (245) (io), 43 I/O (248) (io), 44 I/O (251) (io), 46 I/O (254) (io), 47 I/O (257) (io), 48 I/O (260) (io), 49 I/O (263) (io), 50 I/O (266) (io), 51 I/O (269) (io), 52 I/O (272) (io), 53 I/O (275) (io), 54 I/O (278) (io), 55 I/O (281) (io), 56 I/O (284) (io), 57 I/O, SGCK2 (287) (io), 63 I/O, PGCK2 (295) (io), 64 I/O (HDC) (298) (io), 65 I/O (301) (io), 66 I/O (304) (io), 67 I/O (307) (io), 68 I/O (~{LDC}) (310) (io), 69 I/O (313) (io), 70 I/O (316) (io), 71 I/O (319) (io), 72 I/O (322) (io), 73 I/O (325) (io), 74 I/O (328) (io), 76 I/O (331) (io), 77 I/O (334) (io), 78 I/O (337) (io), 79 I/O (340) (io), 81 I/O (343) (io), 82 I/O (346) (io), 84 I/O (349) (io), 85 I/O (352) (io), 86 I/O (355) (io), 87 I/O (358) (io), 88 I/O (361) (io), 89 I/O (~{INIT}) (364) (io), 92 I/O (367) (io), 93 I/O (370) (io), 94 I/O (373) (io), 95 I/O (376) (io), 96 I/O (379) (io), 97 I/O (382) (io), 99 I/O (385) (io), 100 I/O (388) (io), 102 I/O (391) (io), 103 I/O (394) (io), 104 I/O (397) (io), 105 I/O (400) (io), 107 I/O (403) (io), 108 I/O (406) (io), 109 I/O (409) (io), 110 I/O (412) (io), 111 I/O (415) (io), 112 I/O (418) (io), 113 I/O (421) (io), 114 I/O (424) (io), 115 I/O (427) (io), 116 I/O (430) (io), 117 I/O (433) (io), 118 I/O, SGCK3 (436) (io), 123 I/O (D7) (439) (io), 124 I/O, PGCK3 (442) (io), 125 I/O (445) (io), 126 I/O (448) (io), 127 I/O (451) (io), 128 I/O (454) (io), 129 I/O (D6) (457) (io), 130 I/O (460) (io), 131 I/O (463) (io), 132 I/O (466) (io), 133 I/O (469) (io), 134 I/O (472) (io), 136 I/O (475) (io), 137 I/O (478) (io), 138 I/O (481) (io), 139 I/O (484) (io), 141 I/O (D5) (487) (io), 142 I/O (~{CS0}) (490) (io), 144 I/O (493) (io), 145 I/O (496) (io), 146 I/O (499) (io), 147 I/O (502) (io), 148 I/O (D4) (505) (io), 149 I/O (508) (io), 152 I/O (D3) (511) (io), 153 I/O (~{RS}) (514) (io), 154 I/O (517) (io), 155 I/O (520) (io), 156 I/O (523) (io), 157 I/O (526) (io), 159 I/O (D2) (529) (io), 160 I/O (532) (io), 162 I/O (535) (io), 163 I/O (538) (io), 164 I/O (541) (io), 165 I/O (544) (io), 167 I/O (547) (io), 168 I/O (550) (io), 169 I/O (553) (io), 170 I/O (556) (io), 171 I/O (559) (io), 172 I/O (562) (io), 173 I/O (D1) (565) (io), 174 I/O (~{RCLK}, RDY/~{BUSY}) (568) (io), 175 I/O (571) (io), 176 I/O (574) (io), 177 I/O (D0, DIN) (577) (io), 178 I/O, SGCK4 (DOUT) (580) (io), 183 I/O (A0, ~{WS}) (2) (io), 184 I/O, PGCK4 (A1) (5) (io), 185 I/O (8) (io), 186 I/O (11) (io), 187 I/O (CS1, A2) (14) (io), 188 I/O (A3) (17) (io), 189 I/O (20) (io), 190 I/O (23) (io), 191 I/O (26) (io), 192 I/O (29) (io), 193 I/O (32) (io), 194 I/O (35) (io), 197 I/O (38) (io), 198 I/O (41) (io), 199 I/O (44) (io), 200 I/O (47) (io), 202 I/O (A4) (50) (io), 203 I/O (A5) (53) (io), 205 I/O (56) (io), 206 I/O (59) (io), 207 I/O (62) (io), 208 I/O (65) (io), 209 I/O (A6) (68) (io), 210 I/O (A7) (71) (io), 213 I/O (A8) (74) (io), 214 I/O (A9) (77) (io), 215 I/O (80) (io), 216 I/O (83) (io), 217 I/O (86) (io), 218 I/O (89) (io), 220 I/O (A10) (92) (io), 221 I/O (A11) (95) (io), 223 I/O (98) (io), 224 I/O (101) (io), 225 I/O (104) (io), 226 I/O (107) (io), 228 I/O (110) (io), 229 I/O (113) (io), 230 I/O (116) (io), 231 I/O (119) (io), 232 I/O (A12) (122) (io), 233 I/O (A13) (125) (io), 234 I/O (128) (io), 235 I/O (131) (io), 236 I/O (134) (io), 237 I/O (137) (io), 238 I/O (A14) (140) (io), 239 I/O, SGCK1 (A15) (143) (io)
part B pins: 1 GND (power), 6 I/O, TDI (158) (io), 7 I/O, TCK (161) (io), 14 GND (power), 17 I/O, TMS (188) (io), 19 VCC (power), 22 GND * (power), 29 GND (power), 30 VCC (power), 37 GND * (power), 40 VCC (power), 45 GND (power), 58 O (M1) (290) (io), 59 GND (power), 60 I (M0) (293) (in), 61 VCC (power), 62 I (M2) (294) (in), 75 GND (power), 80 VCC (power), 83 GND * (power), 90 VCC (power), 91 GND (power), 98 GND * (power), 101 VCC (power), 106 GND (power), 119 GND (power), 120 DONE (io), 121 VCC (power), 122 ~{PROGRAM} (in), 135 GND (power), 140 VCC (power), 143 GND * (power), 150 VCC (power), 151 GND (power), 158 GND * (power), 161 VCC (power), 166 GND (power), 179 CCLK (io), 180 VCC (power), 181 O, TDO (0) (hiz), 182 GND (power), 195 NC, 196 GND (power), 201 VCC (power), 204 GND * (power), 211 GND (power), 212 VCC (power), 219 GND * (power), 222 VCC (power), 227 GND (power), 240 VCC (power)

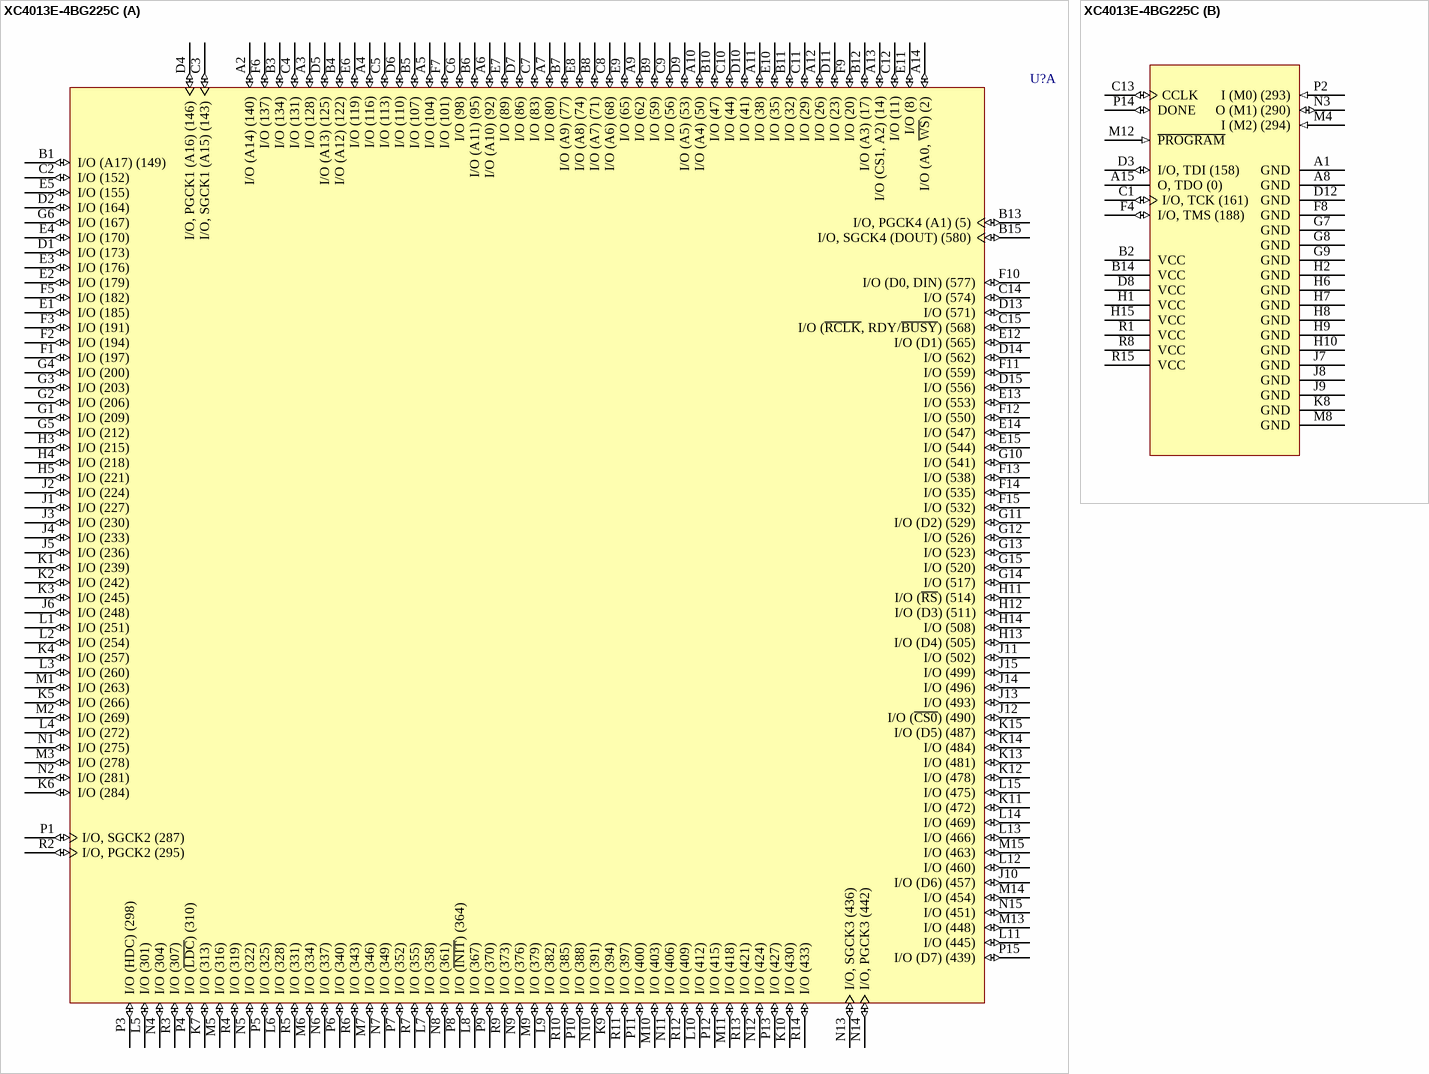
[diagram p197: symbol XC4013E-4BG225C]

## XC4013E-4BG225C
designator U?
XC4000E FPGA, 225-Ball BGA, Commercial Grade; PackageDocument: ver1.1, Apr-2001; Published: 28-Feb-2003; DatasheetDocument: (v1.6) May-99; PackageReference: BG225; Publisher: Altium Limited
footprint BG225 (225-Ball Plastic Ball Grid Array (BG225))
part A pins: A2 I/O (A14) (140) (io), A3 I/O (128) (io), A4 I/O (116) (io), A5 I/O (104) (io), A6 I/O (A10) (92) (io), A7 I/O (80) (io), A9 I/O (62) (io), A10 I/O (A4) (50) (io), A11 I/O (38) (io), A12 I/O (26) (io), A13 I/O (CS1, A2) (14) (io), A14 I/O (A0, ~{WS}) (2) (io), B1 I/O (A17) (149) (io), B3 I/O (134) (io), B4 I/O (A12) (122) (io), B5 I/O (107) (io), B6 I/O (A11) (95) (io), B7 I/O (A9) (77) (io), B8 I/O (A7) (71) (io), B9 I/O (59) (io), B10 I/O (47) (io), B11 I/O (32) (io), B12 I/O (A3) (17) (io), B13 I/O, PGCK4 (A1) (5) (io), B15 I/O, SGCK4 (DOUT) (580) (io), C2 I/O (152) (io), C3 I/O, SGCK1 (A15) (143) (io), C4 I/O (131) (io), C5 I/O (113) (io), C6 I/O (98) (io), C7 I/O (83) (io), C8 I/O (A6) (68) (io), C9 I/O (56) (io), C10 I/O (44) (io), C11 I/O (29) (io), C12 I/O (11) (io), C14 I/O (574) (io), C15 I/O (~{RCLK}, RDY/~{BUSY}) (568) (io), D1 I/O (173) (io), D2 I/O (164) (io), D4 I/O, PGCK1 (A16) (146) (io), D5 I/O (A13) (125) (io), D6 I/O (110) (io), D7 I/O (86) (io), D9 I/O (A5) (53) (io), D10 I/O (41) (io), D11 I/O (23) (io), D13 I/O (571) (io), D14 I/O (562) (io), D15 I/O (556) (io), E1 I/O (185) (io), E2 I/O (179) (io), E3 I/O (176) (io), E4 I/O (170) (io), E5 I/O (155) (io), E6 I/O (119) (io), E7 I/O (89) (io), E8 I/O (A8) (74) (io), E9 I/O (65) (io), E10 I/O (35) (io), E11 I/O (8) (io), E12 I/O (D1) (565) (io), E13 I/O (553) (io), E14 I/O (547) (io), E15 I/O (544) (io), F1 I/O (197) (io), F2 I/O (194) (io), F3 I/O (191) (io), F5 I/O (182) (io), F6 I/O (137) (io), F7 I/O (101) (io), F9 I/O (20) (io), F10 I/O (D0, DIN) (577) (io), F11 I/O (559) (io), F12 I/O (550) (io), F13 I/O (538) (io), F14 I/O (535) (io), F15 I/O (532) (io), G1 I/O (209) (io), G2 I/O (206) (io), G3 I/O (203) (io), G4 I/O (200) (io), G5 I/O (212) (io), G6 I/O (167) (io), G10 I/O (541) (io), G11 I/O (D2) (529) (io), G12 I/O (526) (io), G13 I/O (523) (io), G14 I/O (517) (io), G15 I/O (520) (io), H3 I/O (215) (io), H4 I/O (218) (io), H5 I/O (221) (io), H11 I/O (~{RS}) (514) (io), H12 I/O (D3) (511) (io), H13 I/O (D4) (505) (io), H14 I/O (508) (io), J1 I/O (227) (io), J2 I/O (224) (io), J3 I/O (230) (io), J4 I/O (233) (io), J5 I/O (236) (io), J6 I/O (248) (io), J10 I/O (D6) (457) (io), J11 I/O (502) (io), J12 I/O (~{CS0}) (490) (io), J13 I/O (493) (io), J14 I/O (496) (io), J15 I/O (499) (io), K1 I/O (239) (io), K2 I/O (242) (io), K3 I/O (245) (io), K4 I/O (257) (io), K5 I/O (266) (io), K6 I/O (284) (io), K7 I/O (313) (io), K9 I/O (394) (io), K10 I/O (430) (io), K11 I/O (472) (io), K12 I/O (478) (io), K13 I/O (481) (io), K14 I/O (484) (io), K15 I/O (D5) (487) (io), L1 I/O (251) (io), L2 I/O (254) (io), L3 I/O (260) (io), L4 I/O (272) (io), L5 I/O (301) (io), L6 I/O (328) (io), L7 I/O (358) (io), L8 I/O (367) (io), L9 I/O (382) (io), L10 I/O (412) (io), L11 I/O (445) (io), L12 I/O (460) (io), L13 I/O (466) (io), L14 I/O (469) (io), L15 I/O (475) (io), M1 I/O (263) (io), M2 I/O (269) (io), M3 I/O (278) (io), M5 I/O (316) (io), M6 I/O (334) (io), M7 I/O (346) (io), M9 I/O (379) (io), M10 I/O (403) (io), M11 I/O (418) (io), M13 I/O (448) (io), M14 I/O (454) (io), M15 I/O (463) (io), N1 I/O (275) (io), N2 I/O (281) (io), N4 I/O (304) (io), N5 I/O (322) (io), N6 I/O (337) (io), N7 I/O (349) (io), N8 I/O (361) (io), N9 I/O (376) (io), N10 I/O (391) (io), N11 I/O (406) (io), N12 I/O (424) (io), N13 I/O, SGCK3 (436) (io), N14 I/O, PGCK3 (442) (io), N15 I/O (451) (io), P1 I/O, SGCK2 (287) (io), P3 I/O (HDC) (298) (io), P4 I/O (~{LDC}) (310) (io), P5 I/O (325) (io), P6 I/O (340) (io), P7 I/O (352) (io), P8 I/O (~{INIT}) (364) (io), P9 I/O (370) (io), P10 I/O (388) (io), P11 I/O (400) (io), P12 I/O (415) (io), P13 I/O (427) (io), P15 I/O (D7) (439) (io), R2 I/O, PGCK2 (295) (io), R3 I/O (307) (io), R4 I/O (319) (io), R5 I/O (331) (io), R6 I/O (343) (io), R7 I/O (355) (io), R9 I/O (373) (io), R10 I/O (385) (io), R11 I/O (397) (io), R12 I/O (409) (io), R13 I/O (421) (io), R14 I/O (433) (io)
part B pins: A1 GND (power), A8 GND (power), A15 O, TDO (0) (hiz), B2 VCC (power), B14 VCC (power), C1 I/O, TCK (161) (io), C13 CCLK (io), D3 I/O, TDI (158) (io), D8 VCC (power), D12 GND (power), F4 I/O, TMS (188) (io), F8 GND (power), G7 GND (power), G8 GND (power), G9 GND (power), H1 VCC (power), H2 GND (power), H6 GND (power), H7 GND (power), H8 GND (power), H9 GND (power), H10 GND (power), H15 VCC (power), J7 GND (power), J8 GND (power), J9 GND (power), K8 GND (power), M4 I (M2) (294) (in), M8 GND (power), M12 ~{PROGRAM} (in), N3 O (M1) (290) (io), P2 I (M0) (293) (in), P14 DONE (io), R1 VCC (power), R8 VCC (power), R15 VCC (power)

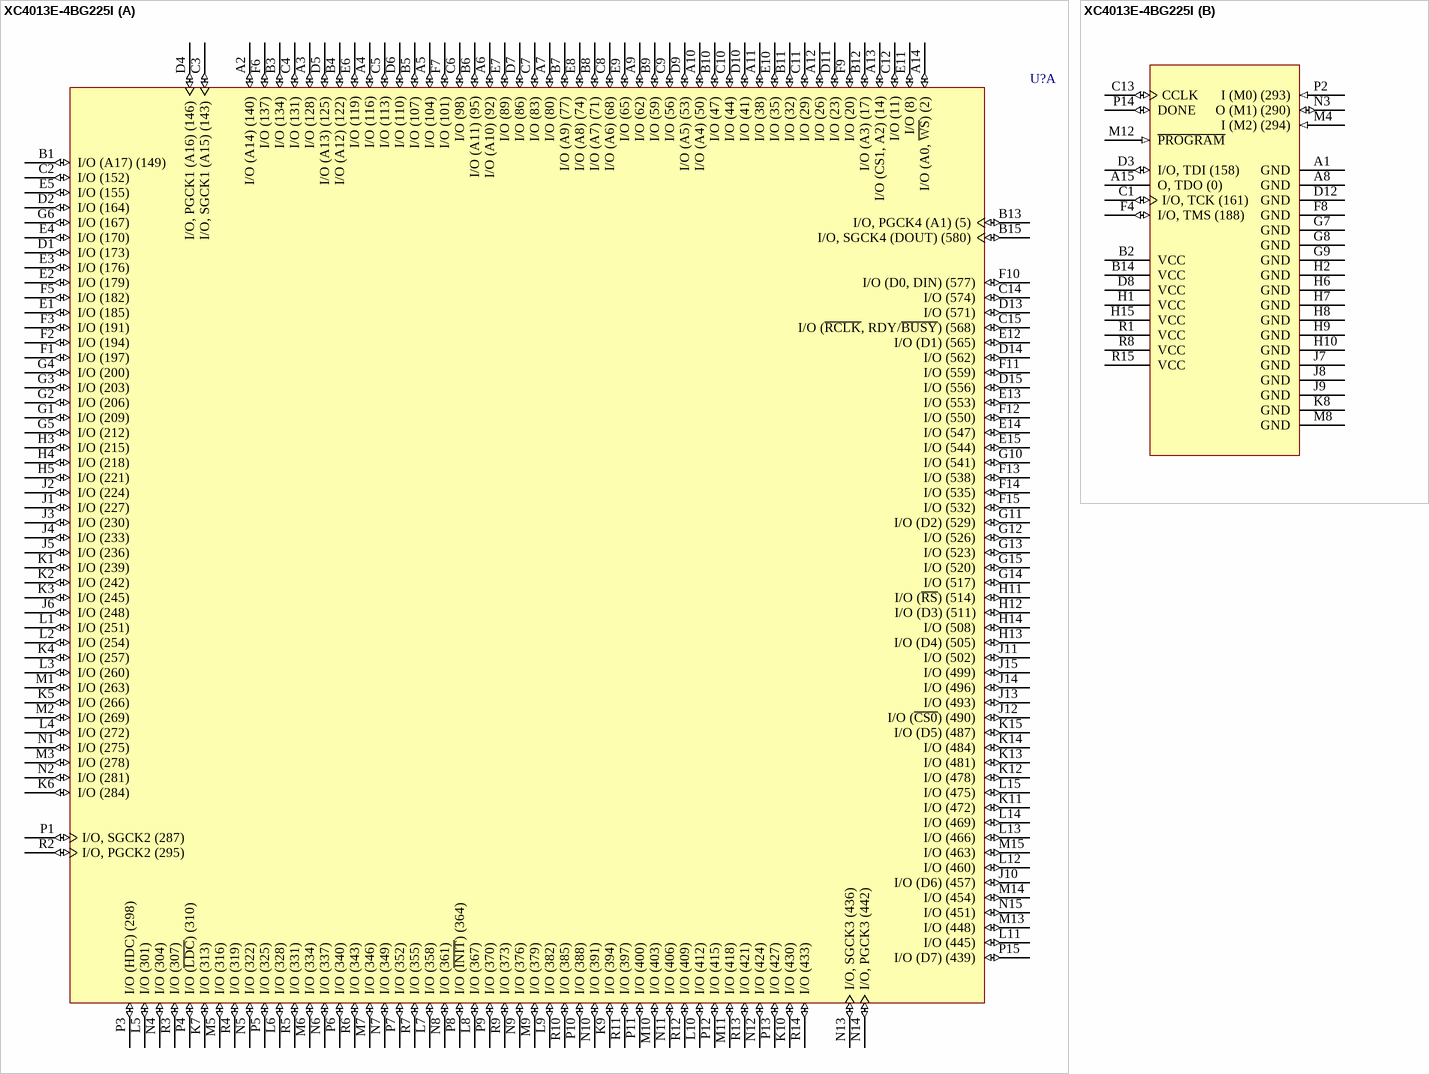
[diagram p198: symbol XC4013E-4BG225I]

## XC4013E-4BG225I
designator U?
XC4000E FPGA, 225-Ball BGA, Industrial Grade; PackageDocument: ver1.1, Apr-2001; Published: 28-Feb-2003; DatasheetDocument: (v1.6) May-99; PackageReference: BG225; Publisher: Altium Limited
footprint BG225 (225-Ball Plastic Ball Grid Array (BG225))
part A pins: A2 I/O (A14) (140) (io), A3 I/O (128) (io), A4 I/O (116) (io), A5 I/O (104) (io), A6 I/O (A10) (92) (io), A7 I/O (80) (io), A9 I/O (62) (io), A10 I/O (A4) (50) (io), A11 I/O (38) (io), A12 I/O (26) (io), A13 I/O (CS1, A2) (14) (io), A14 I/O (A0, ~{WS}) (2) (io), B1 I/O (A17) (149) (io), B3 I/O (134) (io), B4 I/O (A12) (122) (io), B5 I/O (107) (io), B6 I/O (A11) (95) (io), B7 I/O (A9) (77) (io), B8 I/O (A7) (71) (io), B9 I/O (59) (io), B10 I/O (47) (io), B11 I/O (32) (io), B12 I/O (A3) (17) (io), B13 I/O, PGCK4 (A1) (5) (io), B15 I/O, SGCK4 (DOUT) (580) (io), C2 I/O (152) (io), C3 I/O, SGCK1 (A15) (143) (io), C4 I/O (131) (io), C5 I/O (113) (io), C6 I/O (98) (io), C7 I/O (83) (io), C8 I/O (A6) (68) (io), C9 I/O (56) (io), C10 I/O (44) (io), C11 I/O (29) (io), C12 I/O (11) (io), C14 I/O (574) (io), C15 I/O (~{RCLK}, RDY/~{BUSY}) (568) (io), D1 I/O (173) (io), D2 I/O (164) (io), D4 I/O, PGCK1 (A16) (146) (io), D5 I/O (A13) (125) (io), D6 I/O (110) (io), D7 I/O (86) (io), D9 I/O (A5) (53) (io), D10 I/O (41) (io), D11 I/O (23) (io), D13 I/O (571) (io), D14 I/O (562) (io), D15 I/O (556) (io), E1 I/O (185) (io), E2 I/O (179) (io), E3 I/O (176) (io), E4 I/O (170) (io), E5 I/O (155) (io), E6 I/O (119) (io), E7 I/O (89) (io), E8 I/O (A8) (74) (io), E9 I/O (65) (io), E10 I/O (35) (io), E11 I/O (8) (io), E12 I/O (D1) (565) (io), E13 I/O (553) (io), E14 I/O (547) (io), E15 I/O (544) (io), F1 I/O (197) (io), F2 I/O (194) (io), F3 I/O (191) (io), F5 I/O (182) (io), F6 I/O (137) (io), F7 I/O (101) (io), F9 I/O (20) (io), F10 I/O (D0, DIN) (577) (io), F11 I/O (559) (io), F12 I/O (550) (io), F13 I/O (538) (io), F14 I/O (535) (io), F15 I/O (532) (io), G1 I/O (209) (io), G2 I/O (206) (io), G3 I/O (203) (io), G4 I/O (200) (io), G5 I/O (212) (io), G6 I/O (167) (io), G10 I/O (541) (io), G11 I/O (D2) (529) (io), G12 I/O (526) (io), G13 I/O (523) (io), G14 I/O (517) (io), G15 I/O (520) (io), H3 I/O (215) (io), H4 I/O (218) (io), H5 I/O (221) (io), H11 I/O (~{RS}) (514) (io), H12 I/O (D3) (511) (io), H13 I/O (D4) (505) (io), H14 I/O (508) (io), J1 I/O (227) (io), J2 I/O (224) (io), J3 I/O (230) (io), J4 I/O (233) (io), J5 I/O (236) (io), J6 I/O (248) (io), J10 I/O (D6) (457) (io), J11 I/O (502) (io), J12 I/O (~{CS0}) (490) (io), J13 I/O (493) (io), J14 I/O (496) (io), J15 I/O (499) (io), K1 I/O (239) (io), K2 I/O (242) (io), K3 I/O (245) (io), K4 I/O (257) (io), K5 I/O (266) (io), K6 I/O (284) (io), K7 I/O (313) (io), K9 I/O (394) (io), K10 I/O (430) (io), K11 I/O (472) (io), K12 I/O (478) (io), K13 I/O (481) (io), K14 I/O (484) (io), K15 I/O (D5) (487) (io), L1 I/O (251) (io), L2 I/O (254) (io), L3 I/O (260) (io), L4 I/O (272) (io), L5 I/O (301) (io), L6 I/O (328) (io), L7 I/O (358) (io), L8 I/O (367) (io), L9 I/O (382) (io), L10 I/O (412) (io), L11 I/O (445) (io), L12 I/O (460) (io), L13 I/O (466) (io), L14 I/O (469) (io), L15 I/O (475) (io), M1 I/O (263) (io), M2 I/O (269) (io), M3 I/O (278) (io), M5 I/O (316) (io), M6 I/O (334) (io), M7 I/O (346) (io), M9 I/O (379) (io), M10 I/O (403) (io), M11 I/O (418) (io), M13 I/O (448) (io), M14 I/O (454) (io), M15 I/O (463) (io), N1 I/O (275) (io), N2 I/O (281) (io), N4 I/O (304) (io), N5 I/O (322) (io), N6 I/O (337) (io), N7 I/O (349) (io), N8 I/O (361) (io), N9 I/O (376) (io), N10 I/O (391) (io), N11 I/O (406) (io), N12 I/O (424) (io), N13 I/O, SGCK3 (436) (io), N14 I/O, PGCK3 (442) (io), N15 I/O (451) (io), P1 I/O, SGCK2 (287) (io), P3 I/O (HDC) (298) (io), P4 I/O (~{LDC}) (310) (io), P5 I/O (325) (io), P6 I/O (340) (io), P7 I/O (352) (io), P8 I/O (~{INIT}) (364) (io), P9 I/O (370) (io), P10 I/O (388) (io), P11 I/O (400) (io), P12 I/O (415) (io), P13 I/O (427) (io), P15 I/O (D7) (439) (io), R2 I/O, PGCK2 (295) (io), R3 I/O (307) (io), R4 I/O (319) (io), R5 I/O (331) (io), R6 I/O (343) (io), R7 I/O (355) (io), R9 I/O (373) (io), R10 I/O (385) (io), R11 I/O (397) (io), R12 I/O (409) (io), R13 I/O (421) (io), R14 I/O (433) (io)
part B pins: A1 GND (power), A8 GND (power), A15 O, TDO (0) (hiz), B2 VCC (power), B14 VCC (power), C1 I/O, TCK (161) (io), C13 CCLK (io), D3 I/O, TDI (158) (io), D8 VCC (power), D12 GND (power), F4 I/O, TMS (188) (io), F8 GND (power), G7 GND (power), G8 GND (power), G9 GND (power), H1 VCC (power), H2 GND (power), H6 GND (power), H7 GND (power), H8 GND (power), H9 GND (power), H10 GND (power), H15 VCC (power), J7 GND (power), J8 GND (power), J9 GND (power), K8 GND (power), M4 I (M2) (294) (in), M8 GND (power), M12 ~{PROGRAM} (in), N3 O (M1) (290) (io), P2 I (M0) (293) (in), P14 DONE (io), R1 VCC (power), R8 VCC (power), R15 VCC (power)

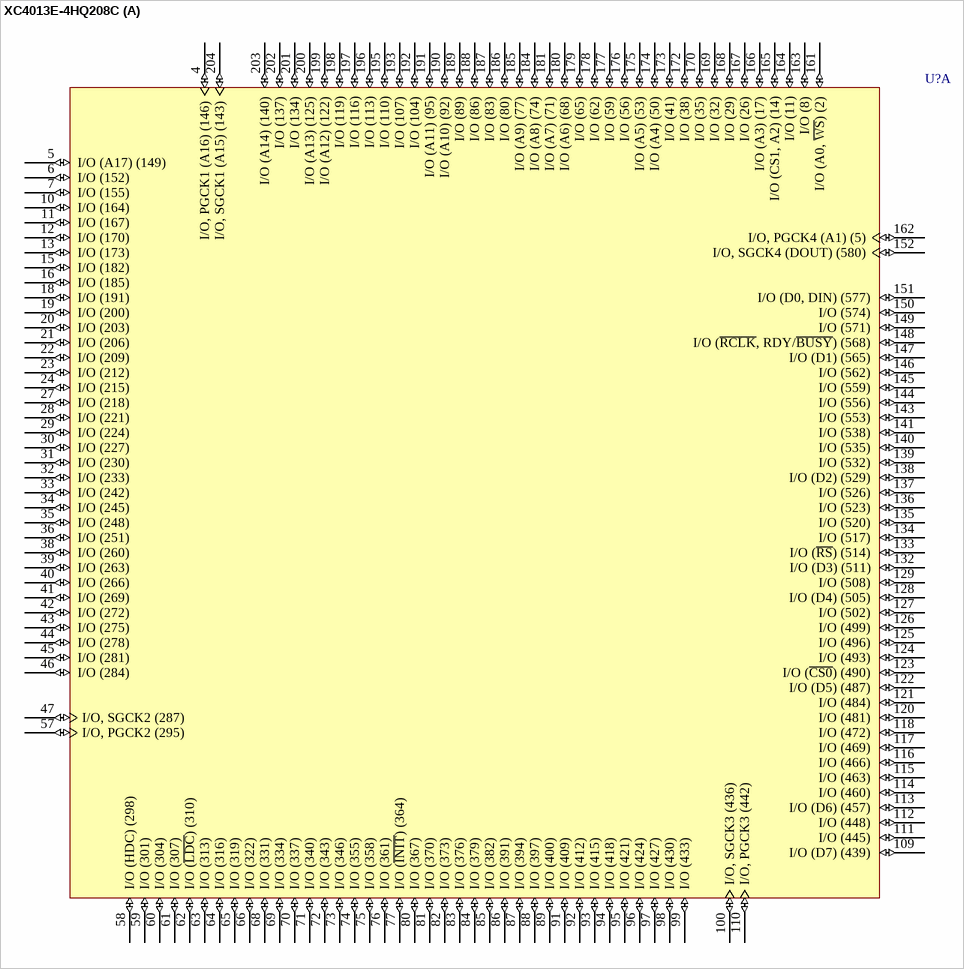
[diagram p199: symbol XC4013E-4HQ208C]

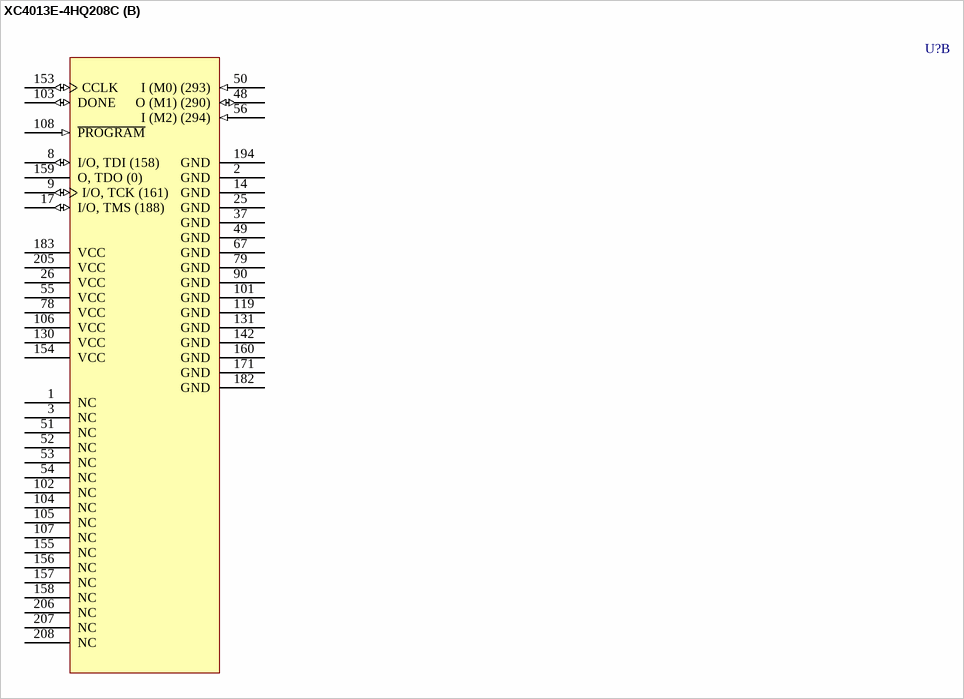
[diagram p200: symbol XC4013E-4HQ208C]

## XC4013E-4HQ208C
designator U?
XC4000E FPGA, 208-Pin HQFP, Commercial Grade; PackageDocument: ver1.1, Oct-2002; Published: 28-Feb-2003; LatestRevisionDate: 17-Sep-2003; LatestRevisionNote: PCB Footprint dimensions updated; DatasheetDocument: (v1.6) May-99; PackageReference: HQ208; Publisher: Altium Limited; Code_JEDEC: MS-029-FA-1
footprint HQ208 (208-Pin Heat Sink Quad Flat Pack (HQ208))
part A pins: 4 I/O, PGCK1 (A16) (146) (io), 5 I/O (A17) (149) (io), 6 I/O (152) (io), 7 I/O (155) (io), 10 I/O (164) (io), 11 I/O (167) (io), 12 I/O (170) (io), 13 I/O (173) (io), 15 I/O (182) (io), 16 I/O (185) (io), 18 I/O (191) (io), 19 I/O (200) (io), 20 I/O (203) (io), 21 I/O (206) (io), 22 I/O (209) (io), 23 I/O (212) (io), 24 I/O (215) (io), 27 I/O (218) (io), 28 I/O (221) (io), 29 I/O (224) (io), 30 I/O (227) (io), 31 I/O (230) (io), 32 I/O (233) (io), 33 I/O (242) (io), 34 I/O (245) (io), 35 I/O (248) (io), 36 I/O (251) (io), 38 I/O (260) (io), 39 I/O (263) (io), 40 I/O (266) (io), 41 I/O (269) (io), 42 I/O (272) (io), 43 I/O (275) (io), 44 I/O (278) (io), 45 I/O (281) (io), 46 I/O (284) (io), 47 I/O, SGCK2 (287) (io), 57 I/O, PGCK2 (295) (io), 58 I/O (HDC) (298) (io), 59 I/O (301) (io), 60 I/O (304) (io), 61 I/O (307) (io), 62 I/O (~{LDC}) (310) (io), 63 I/O (313) (io), 64 I/O (316) (io), 65 I/O (319) (io), 66 I/O (322) (io), 68 I/O (331) (io), 69 I/O (334) (io), 70 I/O (337) (io), 71 I/O (340) (io), 72 I/O (343) (io), 73 I/O (346) (io), 74 I/O (355) (io), 75 I/O (358) (io), 76 I/O (361) (io), 77 I/O (~{INIT}) (364) (io), 80 I/O (367) (io), 81 I/O (370) (io), 82 I/O (373) (io), 83 I/O (376) (io), 84 I/O (379) (io), 85 I/O (382) (io), 86 I/O (391) (io), 87 I/O (394) (io), 88 I/O (397) (io), 89 I/O (400) (io), 91 I/O (409) (io), 92 I/O (412) (io), 93 I/O (415) (io), 94 I/O (418) (io), 95 I/O (421) (io), 96 I/O (424) (io), 97 I/O (427) (io), 98 I/O (430) (io), 99 I/O (433) (io), 100 I/O, SGCK3 (436) (io), 109 I/O (D7) (439) (io), 110 I/O, PGCK3 (442) (io), 111 I/O (445) (io), 112 I/O (448) (io), 113 I/O (D6) (457) (io), 114 I/O (460) (io), 115 I/O (463) (io), 116 I/O (466) (io), 117 I/O (469) (io), 118 I/O (472) (io), 120 I/O (481) (io), 121 I/O (484) (io), 122 I/O (D5) (487) (io), 123 I/O (~{CS0}) (490) (io), 124 I/O (493) (io), 125 I/O (496) (io), 126 I/O (499) (io), 127 I/O (502) (io), 128 I/O (D4) (505) (io), 129 I/O (508) (io), 132 I/O (D3) (511) (io), 133 I/O (~{RS}) (514) (io), 134 I/O (517) (io), 135 I/O (520) (io), 136 I/O (523) (io), 137 I/O (526) (io), 138 I/O (D2) (529) (io), 139 I/O (532) (io), 140 I/O (535) (io), 141 I/O (538) (io), 143 I/O (553) (io), 144 I/O (556) (io), 145 I/O (559) (io), 146 I/O (562) (io), 147 I/O (D1) (565) (io), 148 I/O (~{RCLK}, RDY/~{BUSY}) (568) (io), 149 I/O (571) (io), 150 I/O (574) (io), 151 I/O (D0, DIN) (577) (io), 152 I/O, SGCK4 (DOUT) (580) (io), 161 I/O (A0, ~{WS}) (2) (io), 162 I/O, PGCK4 (A1) (5) (io), 163 I/O (8) (io), 164 I/O (11) (io), 165 I/O (CS1, A2) (14) (io), 166 I/O (A3) (17) (io), 167 I/O (26) (io), 168 I/O (29) (io), 169 I/O (32) (io), 170 I/O (35) (io), 172 I/O (38) (io), 173 I/O (41) (io), 174 I/O (A4) (50) (io), 175 I/O (A5) (53) (io), 176 I/O (56) (io), 177 I/O (59) (io), 178 I/O (62) (io), 179 I/O (65) (io), 180 I/O (A6) (68) (io), 181 I/O (A7) (71) (io), 184 I/O (A8) (74) (io), 185 I/O (A9) (77) (io), 186 I/O (80) (io), 187 I/O (83) (io), 188 I/O (86) (io), 189 I/O (89) (io), 190 I/O (A10) (92) (io), 191 I/O (A11) (95) (io), 192 I/O (104) (io), 193 I/O (107) (io), 195 I/O (110) (io), 196 I/O (113) (io), 197 I/O (116) (io), 198 I/O (119) (io), 199 I/O (A12) (122) (io), 200 I/O (A13) (125) (io), 201 I/O (134) (io), 202 I/O (137) (io), 203 I/O (A14) (140) (io), 204 I/O, SGCK1 (A15) (143) (io)
part B pins: 1 NC, 2 GND (power), 3 NC, 8 I/O, TDI (158) (io), 9 I/O, TCK (161) (io), 14 GND (power), 17 I/O, TMS (188) (io), 25 GND (power), 26 VCC (power), 37 GND (power), 48 O (M1) (290) (io), 49 GND (power), 50 I (M0) (293) (in), 51 NC, 52 NC, 53 NC, 54 NC, 55 VCC (power), 56 I (M2) (294) (in), 67 GND (power), 78 VCC (power), 79 GND (power), 90 GND (power), 101 GND (power), 102 NC, 103 DONE (io), 104 NC, 105 NC, 106 VCC (power), 107 NC, 108 ~{PROGRAM} (in), 119 GND (power), 130 VCC (power), 131 GND (power), 142 GND (power), 153 CCLK (io), 154 VCC (power), 155 NC, 156 NC, 157 NC, 158 NC, 159 O, TDO (0) (hiz), 160 GND (power), 171 GND (power), 182 GND (power), 183 VCC (power), 194 GND (power), 205 VCC (power), 206 NC, 207 NC, 208 NC

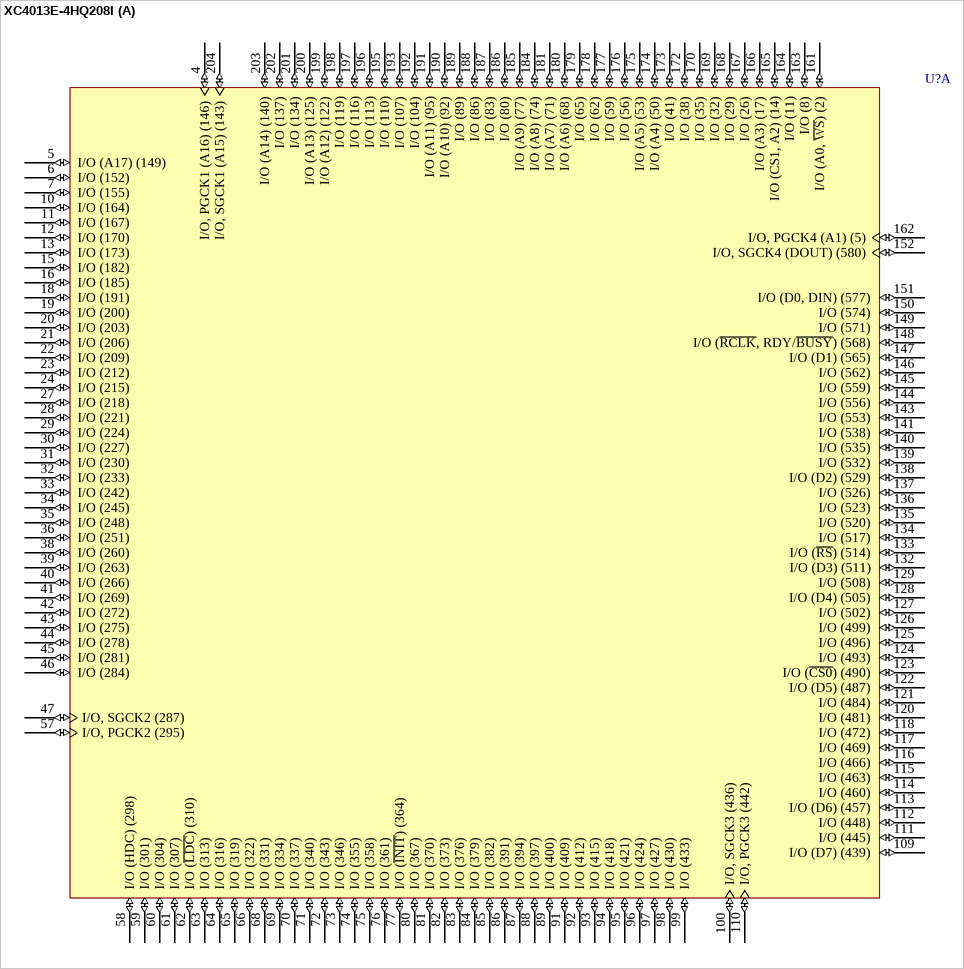
[diagram p201: symbol XC4013E-4HQ208I]

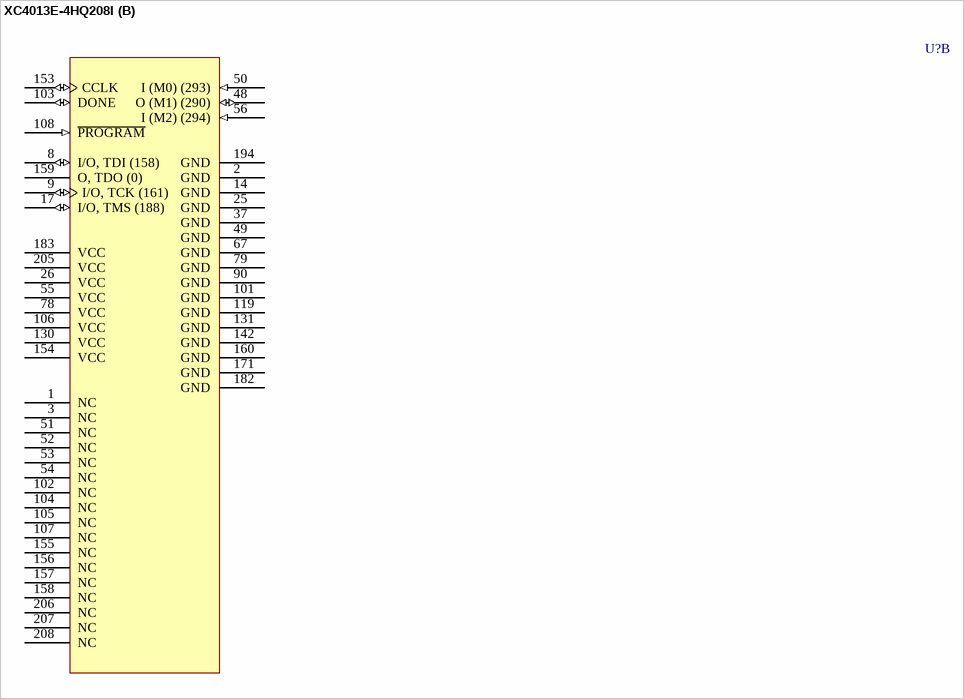
[diagram p202: symbol XC4013E-4HQ208I]

## XC4013E-4HQ208I
designator U?
XC4000E FPGA, 208-Pin HQFP, Industrial Grade; PackageDocument: ver1.1, Oct-2002; Published: 28-Feb-2003; LatestRevisionDate: 17-Sep-2003; LatestRevisionNote: PCB Footprint dimensions updated; DatasheetDocument: (v1.6) May-99; PackageReference: HQ208; Publisher: Altium Limited; Code_JEDEC: MS-029-FA-1
footprint HQ208 (208-Pin Heat Sink Quad Flat Pack (HQ208))
part A pins: 4 I/O, PGCK1 (A16) (146) (io), 5 I/O (A17) (149) (io), 6 I/O (152) (io), 7 I/O (155) (io), 10 I/O (164) (io), 11 I/O (167) (io), 12 I/O (170) (io), 13 I/O (173) (io), 15 I/O (182) (io), 16 I/O (185) (io), 18 I/O (191) (io), 19 I/O (200) (io), 20 I/O (203) (io), 21 I/O (206) (io), 22 I/O (209) (io), 23 I/O (212) (io), 24 I/O (215) (io), 27 I/O (218) (io), 28 I/O (221) (io), 29 I/O (224) (io), 30 I/O (227) (io), 31 I/O (230) (io), 32 I/O (233) (io), 33 I/O (242) (io), 34 I/O (245) (io), 35 I/O (248) (io), 36 I/O (251) (io), 38 I/O (260) (io), 39 I/O (263) (io), 40 I/O (266) (io), 41 I/O (269) (io), 42 I/O (272) (io), 43 I/O (275) (io), 44 I/O (278) (io), 45 I/O (281) (io), 46 I/O (284) (io), 47 I/O, SGCK2 (287) (io), 57 I/O, PGCK2 (295) (io), 58 I/O (HDC) (298) (io), 59 I/O (301) (io), 60 I/O (304) (io), 61 I/O (307) (io), 62 I/O (~{LDC}) (310) (io), 63 I/O (313) (io), 64 I/O (316) (io), 65 I/O (319) (io), 66 I/O (322) (io), 68 I/O (331) (io), 69 I/O (334) (io), 70 I/O (337) (io), 71 I/O (340) (io), 72 I/O (343) (io), 73 I/O (346) (io), 74 I/O (355) (io), 75 I/O (358) (io), 76 I/O (361) (io), 77 I/O (~{INIT}) (364) (io), 80 I/O (367) (io), 81 I/O (370) (io), 82 I/O (373) (io), 83 I/O (376) (io), 84 I/O (379) (io), 85 I/O (382) (io), 86 I/O (391) (io), 87 I/O (394) (io), 88 I/O (397) (io), 89 I/O (400) (io), 91 I/O (409) (io), 92 I/O (412) (io), 93 I/O (415) (io), 94 I/O (418) (io), 95 I/O (421) (io), 96 I/O (424) (io), 97 I/O (427) (io), 98 I/O (430) (io), 99 I/O (433) (io), 100 I/O, SGCK3 (436) (io), 109 I/O (D7) (439) (io), 110 I/O, PGCK3 (442) (io), 111 I/O (445) (io), 112 I/O (448) (io), 113 I/O (D6) (457) (io), 114 I/O (460) (io), 115 I/O (463) (io), 116 I/O (466) (io), 117 I/O (469) (io), 118 I/O (472) (io), 120 I/O (481) (io), 121 I/O (484) (io), 122 I/O (D5) (487) (io), 123 I/O (~{CS0}) (490) (io), 124 I/O (493) (io), 125 I/O (496) (io), 126 I/O (499) (io), 127 I/O (502) (io), 128 I/O (D4) (505) (io), 129 I/O (508) (io), 132 I/O (D3) (511) (io), 133 I/O (~{RS}) (514) (io), 134 I/O (517) (io), 135 I/O (520) (io), 136 I/O (523) (io), 137 I/O (526) (io), 138 I/O (D2) (529) (io), 139 I/O (532) (io), 140 I/O (535) (io), 141 I/O (538) (io), 143 I/O (553) (io), 144 I/O (556) (io), 145 I/O (559) (io), 146 I/O (562) (io), 147 I/O (D1) (565) (io), 148 I/O (~{RCLK}, RDY/~{BUSY}) (568) (io), 149 I/O (571) (io), 150 I/O (574) (io), 151 I/O (D0, DIN) (577) (io), 152 I/O, SGCK4 (DOUT) (580) (io), 161 I/O (A0, ~{WS}) (2) (io), 162 I/O, PGCK4 (A1) (5) (io), 163 I/O (8) (io), 164 I/O (11) (io), 165 I/O (CS1, A2) (14) (io), 166 I/O (A3) (17) (io), 167 I/O (26) (io), 168 I/O (29) (io), 169 I/O (32) (io), 170 I/O (35) (io), 172 I/O (38) (io), 173 I/O (41) (io), 174 I/O (A4) (50) (io), 175 I/O (A5) (53) (io), 176 I/O (56) (io), 177 I/O (59) (io), 178 I/O (62) (io), 179 I/O (65) (io), 180 I/O (A6) (68) (io), 181 I/O (A7) (71) (io), 184 I/O (A8) (74) (io), 185 I/O (A9) (77) (io), 186 I/O (80) (io), 187 I/O (83) (io), 188 I/O (86) (io), 189 I/O (89) (io), 190 I/O (A10) (92) (io), 191 I/O (A11) (95) (io), 192 I/O (104) (io), 193 I/O (107) (io), 195 I/O (110) (io), 196 I/O (113) (io), 197 I/O (116) (io), 198 I/O (119) (io), 199 I/O (A12) (122) (io), 200 I/O (A13) (125) (io), 201 I/O (134) (io), 202 I/O (137) (io), 203 I/O (A14) (140) (io), 204 I/O, SGCK1 (A15) (143) (io)
part B pins: 1 NC, 2 GND (power), 3 NC, 8 I/O, TDI (158) (io), 9 I/O, TCK (161) (io), 14 GND (power), 17 I/O, TMS (188) (io), 25 GND (power), 26 VCC (power), 37 GND (power), 48 O (M1) (290) (io), 49 GND (power), 50 I (M0) (293) (in), 51 NC, 52 NC, 53 NC, 54 NC, 55 VCC (power), 56 I (M2) (294) (in), 67 GND (power), 78 VCC (power), 79 GND (power), 90 GND (power), 101 GND (power), 102 NC, 103 DONE (io), 104 NC, 105 NC, 106 VCC (power), 107 NC, 108 ~{PROGRAM} (in), 119 GND (power), 130 VCC (power), 131 GND (power), 142 GND (power), 153 CCLK (io), 154 VCC (power), 155 NC, 156 NC, 157 NC, 158 NC, 159 O, TDO (0) (hiz), 160 GND (power), 171 GND (power), 182 GND (power), 183 VCC (power), 194 GND (power), 205 VCC (power), 206 NC, 207 NC, 208 NC

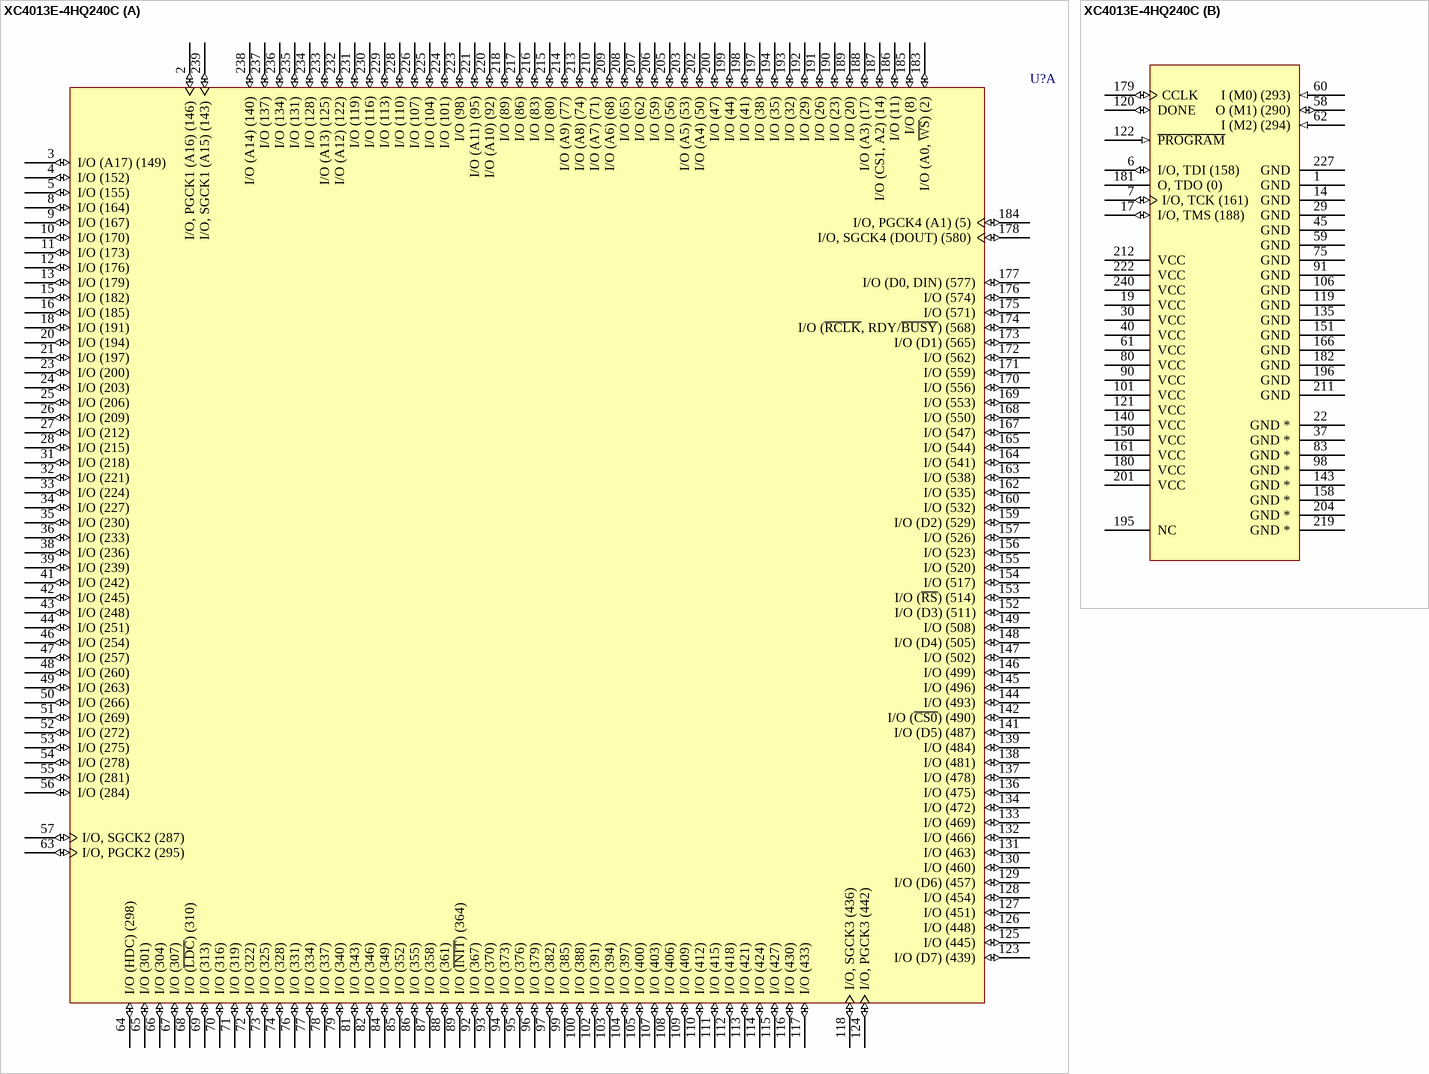
[diagram p203: symbol XC4013E-4HQ240C]